# Altium schematic symbol library wr_switch.SCHLIB: 183 symbols (part 1 of 3)
Pins are listed as number, name and electrical type; pins without a type are passive.

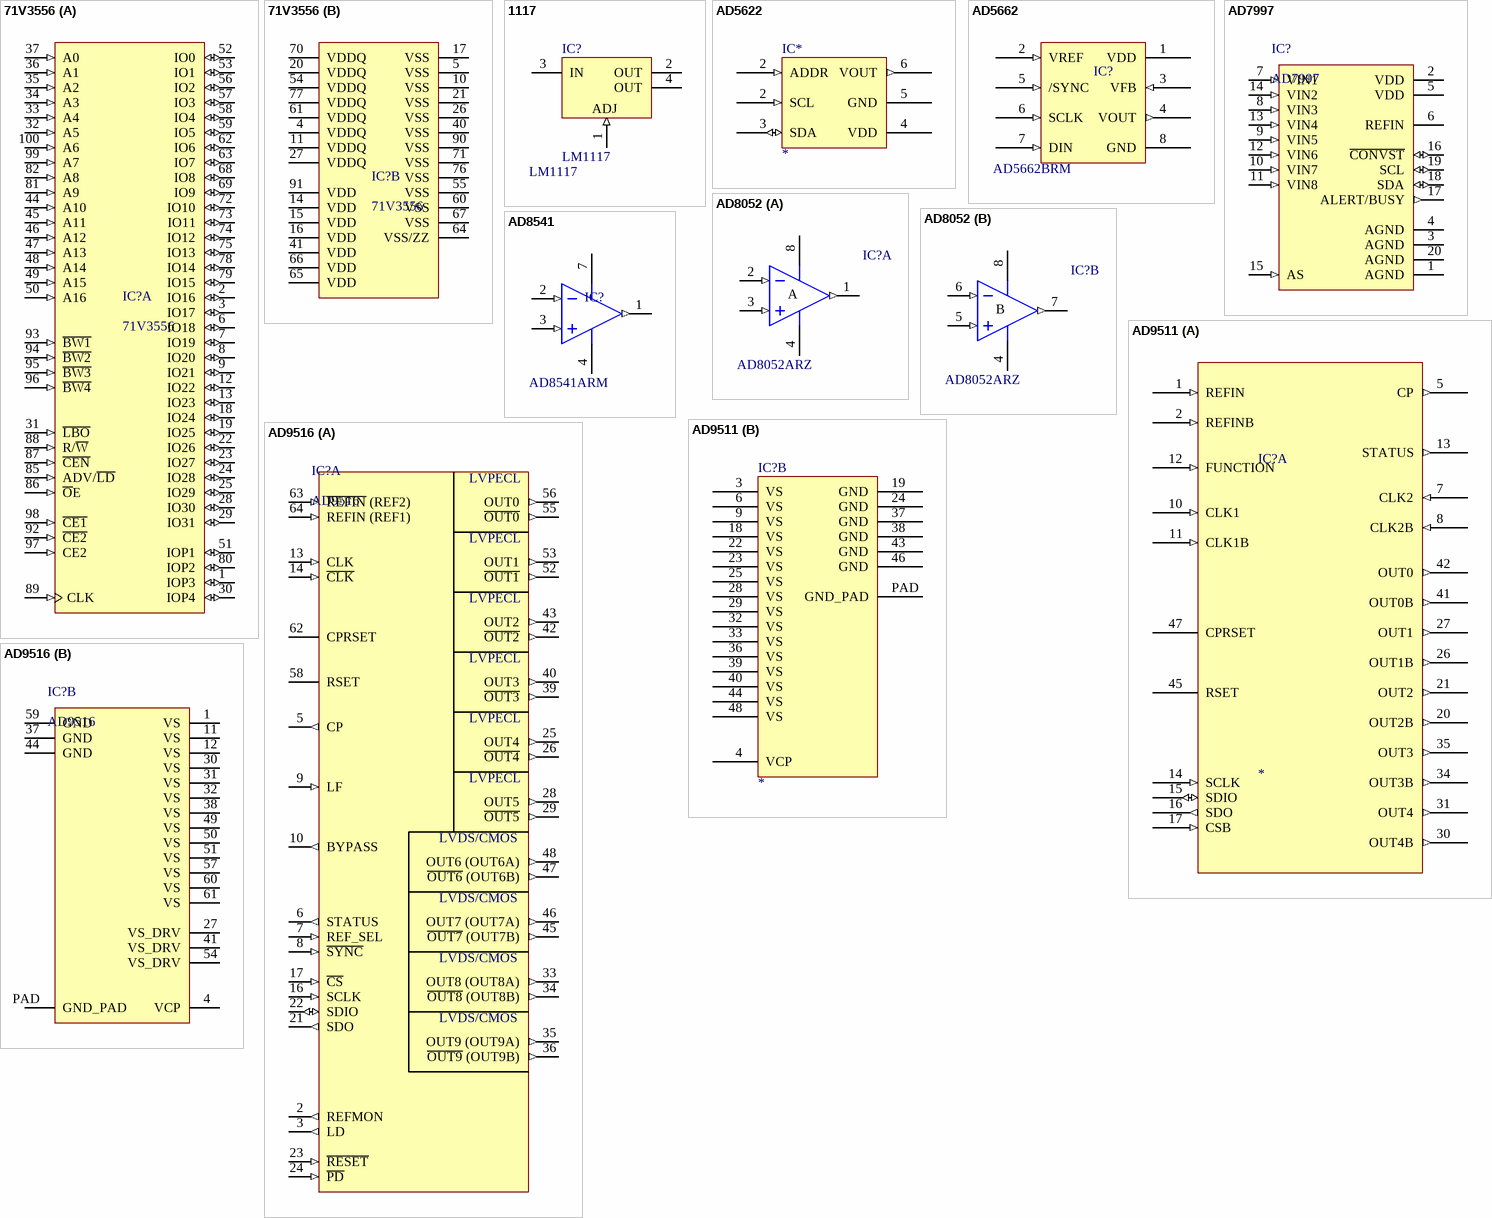
[diagram p0: symbols 71V3556 to AD9516]

## 71V3556
designator IC?
4.5 Mbit ZBT SRAM; RefId: 800-1843-1-ND; Value: IDT71V3556S166PFG8; Supplier: Digikey
footprint TQFP100A101
part A pins: 1 IOP3 (io), 2 IO16 (io), 3 IO17 (io), 6 IO18 (io), 7 IO19 (io), 8 IO20 (io), 9 IO21 (io), 12 IO22 (io), 13 IO23 (io), 18 IO24 (io), 19 IO25 (io), 22 IO26 (io), 23 IO27 (io), 24 IO28 (io), 25 IO29 (io), 28 IO30 (io), 29 IO31 (io), 30 IOP4 (io), 31 ~{LBO} (in), 32 A5 (in), 33 A4 (in), 34 A3 (in), 35 A2 (in), 36 A1 (in), 37 A0 (in), 44 A10 (in), 45 A11 (in), 46 A12 (in), 47 A13 (in), 48 A14 (in), 49 A15 (in), 50 A16 (in), 51 IOP1 (io), 52 IO0 (io), 53 IO1 (io), 56 IO2 (io), 57 IO3 (io), 58 IO4 (io), 59 IO5 (io), 62 IO6 (io), 63 IO7 (io), 68 IO8 (io), 69 IO9 (io), 72 IO10 (io), 73 IO11 (io), 74 IO12 (io), 75 IO13 (io), 78 IO14 (io), 79 IO15 (io), 80 IOP2 (io), 81 A9 (in), 82 A8 (in), 85 ADV/~{LD} (in), 86 ~{O}E (in), 87 ~{CEN} (in), 88 R/~{W} (in), 89 CLK (in), 92 ~{CE2} (in), 93 ~{BW1} (in), 94 ~{BW2} (in), 95 ~{BW3} (in), 96 ~{BW4} (in), 97 CE2 (in), 98 ~{CE1} (in), 99 A7 (in), 100 A6 (in)
part B pins: 4 VDDQ (power), 5 VSS (power), 10 VSS (power), 11 VDDQ (power), 14 VDD (power), 15 VDD (power), 16 VDD (power), 17 VSS (power), 20 VDDQ (power), 21 VSS (power), 26 VSS (power), 27 VDDQ (power), 40 VSS (power), 41 VDD (power), 54 VDDQ (power), 55 VSS (power), 60 VSS (power), 61 VDDQ (power), 64 VSS/ZZ (power), 65 VDD (power), 66 VDD (power), 67 VSS (power), 70 VDDQ (power), 71 VSS (power), 76 VSS (power), 77 VDDQ (power), 90 VSS (power), 91 VDD (power)

## 1117
designator IC?, comment LM1117
Three-Terminal Adjustable Output Positive Voltage Regulator; Package Information: Latest Revision: 1997; Note: Heatsink surface connected to Pin 2; Code - JEDEC: TO-262-AA; Published: 15-Apr-2002; Datasheet: Latest Revision: 1996; Package Reference: 221A-06; Publisher: Altium Limited; Value: LM1117
footprint 221A-06 (TO, Thru-Hole, Vertical, Heatsink Mounted; 3 In-Line Leads; Pitch 2.54 mm)
pins: 1 ADJ (in), 2 OUT (power), 3 IN (power), 4 OUT (power)

## AD5622
designator IC*
Analog Devices 12-bit 1.6 MSPS DAC V/out I2C
pins: 2 ADDR (in), 2 SCL (in), 3 SDA (io), 4 VDD (power), 5 GND (power), 6 VOUT (out)

## AD5662
designator IC?, comment value AD5662BRM  (hidden comment: AD5662B)
Analog Devices 16-bit DAC w/SPI interface, ext ref; RefId: 1117908; Supplier: Farnell
footprint TSOP65P490-8AN (TSOP, 8-Leads, Body 3x3mm, Pitch 0.65mm, IPC Medium Density)
pins: 1 VDD (power), 2 VREF (in), 3 VFB (in), 4 VOUT (out), 5 /SYNC (in), 6 SCLK (in), 7 DIN (in), 8 GND (power)

## AD7997
designator IC?
8-channel 10-bit I2C SAR ADC
footprint TSOP65P640-20AL (TSOP, 20-Leads, Body 6.5x4.4mm, Pitch 0.65mm, IPC High Density)
pins: 1 AGND (power), 2 VDD (power), 3 AGND (power), 4 AGND (power), 5 VDD (power), 6 REFIN (power), 7 VIN1 (in), 8 VIN3 (in), 9 VIN5 (in), 10 VIN7 (in), 11 VIN8 (in), 12 VIN6 (in), 13 VIN4 (in), 14 VIN2 (in), 15 AS (in), 16 ~{CONVST} (io), 17 ALERT/BUSY (out), 18 SDA (io), 19 SCL (io), 20 AGND (power)

## AD8052
designator IC?  value AD8052ARZ  (hidden comment: AD8052)
Low Cost, High-Speed Rail-to-Rail Amplifier; Package Information: Latest Revision: 1997; RefId: 9425616; Published: 8-Jun-2000; Revision: 17-Jul-2002: Re-released for DXP Platform.; Datasheet: Latest Revision: REV. A 1999; Package Reference: RM-08; Publisher: Altium Limited; Supplier: Farnell
footprint SO-G8/P1.53
pins on every part: 4 V- (power), 8 V+ (power)
part A pins: 1 OUT (out), 2 IN- (in), 3 IN+ (in)
part B pins: 5 IN+ (in), 6 IN- (in), 7 OUT (out)
part A text: A
part B text: B

## AD8541
designator IC?  value AD8541ARM  (hidden comment: AD8541)
Analog Devices general purpose low-voltage R2R CMOS opamp
pins: 1 OUT (out), 2 IN- (in), 3 IN+ (in), 4 V- (power), 7 V+ (power)

## AD9511
designator IC?
PLL chip
part A pins: 1 REFIN (in), 2 REFINB (in), 5 CP (out), 7 CLK2 (in), 8 CLK2B (in), 10 CLK1 (in), 11 CLK1B (in), 12 FUNCTION (in), 13 STATUS (out), 14 SCLK (in), 15 SDIO (io), 16 SDO (out), 17 CSB (in), 20 OUT2B (out), 21 OUT2 (out), 26 OUT1B (out), 27 OUT1 (out), 30 OUT4B (out), 31 OUT4 (out), 34 OUT3B (out), 35 OUT3 (out), 41 OUT0B (out), 42 OUT0 (out), 45 RSET, 47 CPRSET
part B pins: 3 VS (power), 4 VCP (power), 6 VS (power), 9 VS (power), 18 VS (power), 19 GND (power), 22 VS (power), 23 VS (power), 24 GND (power), 25 VS (power), 28 VS (power), 29 VS (power), 32 VS (power), 33 VS (power), 36 VS (power), 37 GND (power), 38 GND (power), 39 VS (power), 40 VS (power), 43 GND (power), 44 VS (power), 46 GND (power), 48 VS (power), PAD GND_PAD (power)

## AD9516
designator IC?
PLL with clock fanout
footprint QFN50P900X900X100-64M (QFN, 64-Leads, Body 9.1x9.1mm (max), Pitch 0.50mm, IPC Low Density)
part A pins: 2 REFMON (out), 3 LD (out), 5 CP (out), 6 STATUS (out), 7 REF_SEL (in), 8 ~{SYNC} (in), 9 LF (in), 10 BYPASS (out), 13 CLK (in), 14 ~{CLK} (in), 16 SCLK (in), 17 ~{CS} (in), 21 SDO (out), 22 SDIO (io), 23 ~{RESET} (in), 24 ~{PD} (in), 25 OUT4 (out), 26 ~{OUT4} (out), 28 OUT5 (out), 29 ~{OUT5} (out), 33 OUT8 (OUT8A) (out), 34 ~{OUT8} (OUT8B) (out), 35 OUT9 (OUT9A) (out), 36 ~{OUT9} (OUT9B) (out), 39 ~{OUT3} (out), 40 OUT3 (out), 42 ~{OUT2} (out), 43 OUT2 (out), 45 ~{OUT7} (OUT7B) (out), 46 OUT7 (OUT7A) (out), 47 ~{OUT6} (OUT6B) (out), 48 OUT6 (OUT6A) (out), 52 ~{OUT1} (out), 53 OUT1 (out), 55 ~{OUT0} (out), 56 OUT0 (out), 58 RSET, 62 CPRSET, 63 ~{REFIN} (REF2) (in), 64 REFIN (REF1) (in)
part B pins: 1 VS (power), 4 VCP (power), 11 VS (power), 12 VS (power), 27 VS_DRV (power), 30 VS (power), 31 VS (power), 32 VS (power), 37 GND (power), 38 VS (power), 41 VS_DRV (power), 44 GND (power), 49 VS (power), 50 VS (power), 51 VS (power), 54 VS_DRV (power), 57 VS (power), 59 GND (power), 60 VS (power), 61 VS (power), PAD GND_PAD (power)
part A text: LVPECL; LVDS/CMOS

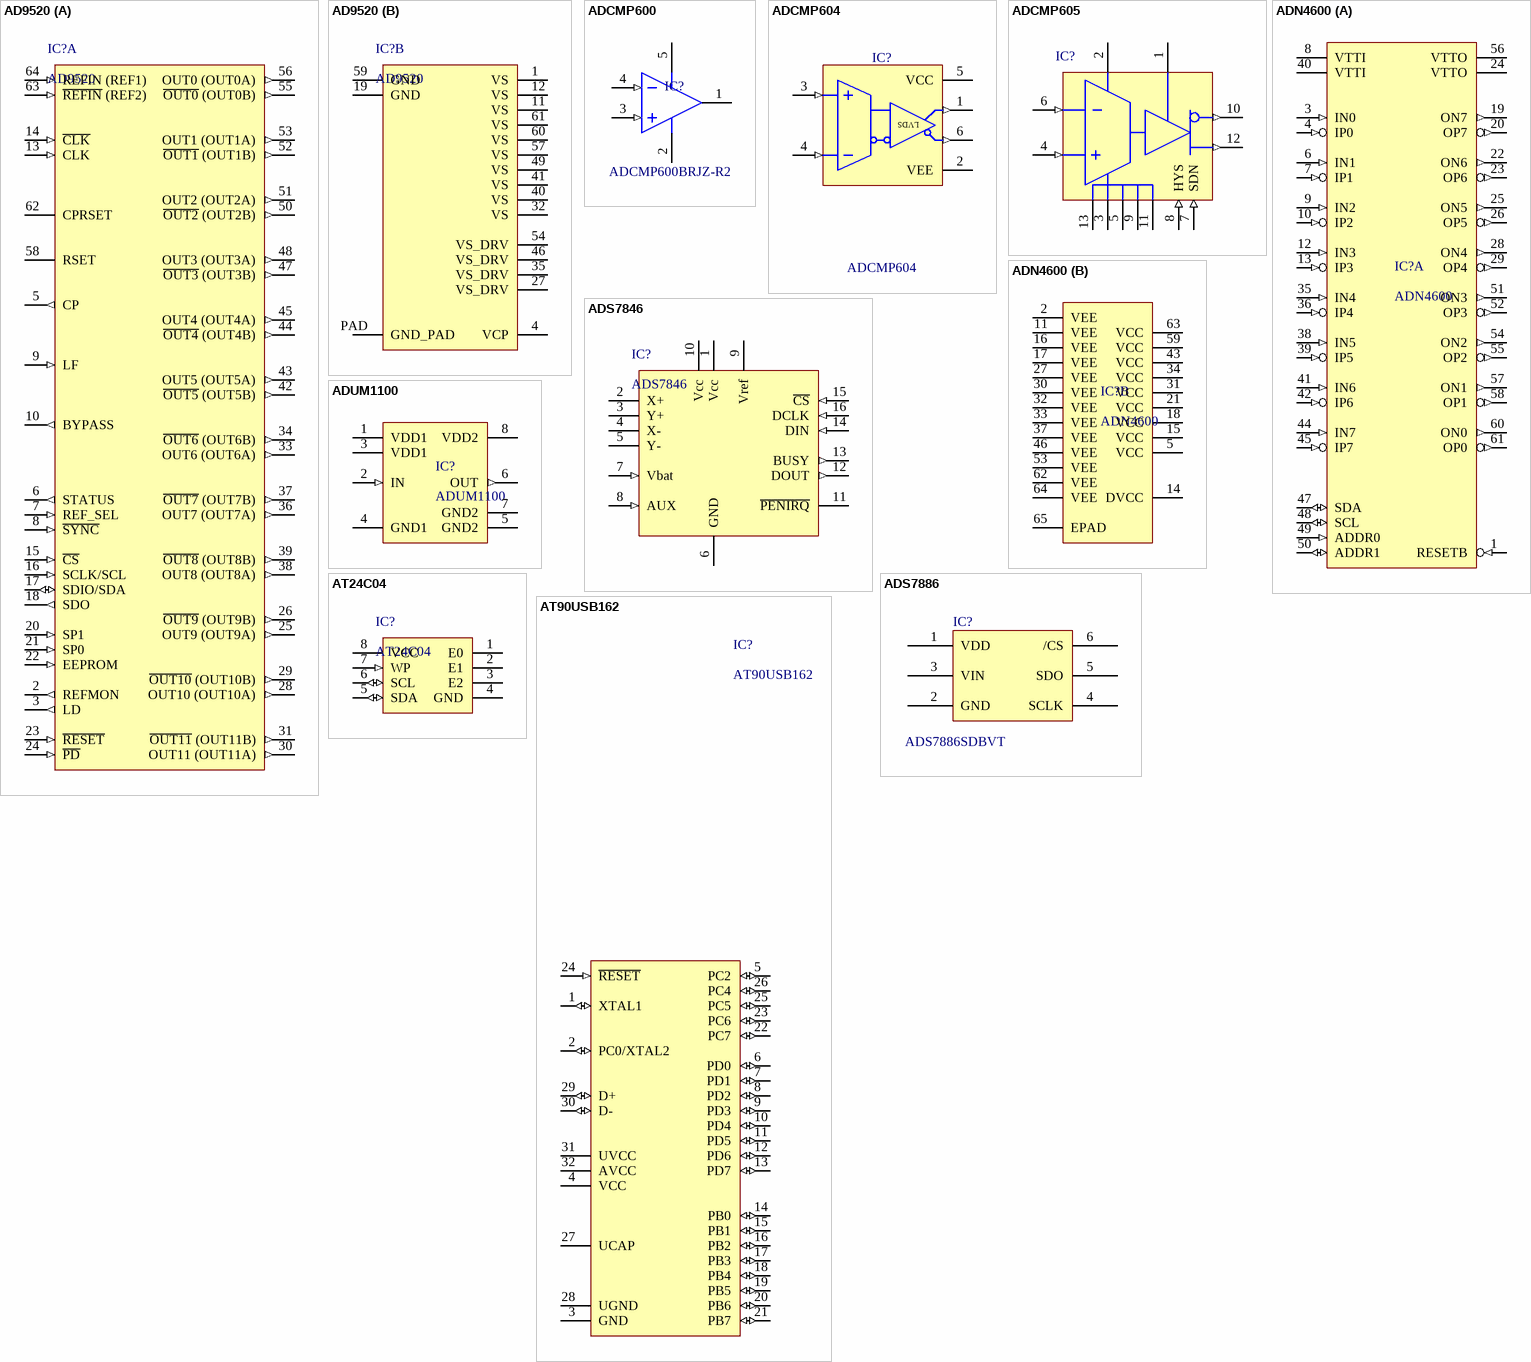
[diagram p1: symbols AD9520 to AT90USB162]

## AD9520
designator IC?
PLL with clock fanout
footprint QFN50P900X900X100-64M (QFN, 64-Leads, Body 9.1x9.1mm (max), Pitch 0.50mm, IPC Low Density)
part A pins: 2 REFMON (out), 3 LD (out), 5 CP (out), 6 STATUS (out), 7 REF_SEL (in), 8 ~{SYNC} (in), 9 LF (in), 10 BYPASS (out), 13 CLK (in), 14 ~{CLK} (in), 15 ~{CS} (in), 16 SCLK/SCL (in), 17 SDIO/SDA (io), 18 SDO (out), 20 SP1 (in), 21 SP0 (in), 22 EEPROM (in), 23 ~{RESET} (in), 24 ~{PD} (in), 25 OUT9 (OUT9A) (out), 26 ~{OUT9} (OUT9B) (out), 28 OUT10 (OUT10A) (out), 29 ~{OUT10} (OUT10B) (out), 30 OUT11 (OUT11A) (out), 31 ~{OUT11} (OUT11B) (out), 33 OUT6 (OUT6A) (out), 34 ~{OUT6} (OUT6B) (out), 36 OUT7 (OUT7A) (out), 37 ~{OUT7} (OUT7B) (out), 38 OUT8 (OUT8A) (out), 39 ~{OUT8} (OUT8B) (out), 42 ~{OUT5} (OUT5B) (out), 43 OUT5 (OUT5A) (out), 44 ~{OUT4} (OUT4B) (out), 45 OUT4 (OUT4A) (out), 47 ~{OUT3} (OUT3B) (out), 48 OUT3 (OUT3A) (out), 50 ~{OUT2} (OUT2B) (out), 51 OUT2 (OUT2A) (out), 52 ~{OUT1} (OUT1B) (out), 53 OUT1 (OUT1A) (out), 55 ~{OUT0} (OUT0B) (out), 56 OUT0 (OUT0A) (out), 58 RSET, 62 CPRSET, 63 ~{REFIN} (REF2) (in), 64 REFIN (REF1) (in)
part B pins: 1 VS (power), 4 VCP (power), 11 VS (power), 12 VS (power), 19 GND (power), 27 VS_DRV (power), 32 VS (power), 35 VS_DRV (power), 40 VS (power), 41 VS (power), 46 VS_DRV (power), 49 VS (power), 54 VS_DRV (power), 57 VS (power), 59 GND (power), 60 VS (power), 61 VS (power), PAD GND_PAD (power)

## ADCMP600
designator IC?  value ADCMP600BRJZ-R2  (hidden comment: ADCMP600)
Analog Devices fast comparator; RefId: 1441023; Supplier: Farnell
footprint SOT23-5AL (SOT23, 5-Leads, Body 2.9x1.6mm, Pitch 0.95mm, Lead Span 2.8mm, IPC High Density)
pins: 1 Q (oc), 2 VEE (power), 3 VP (in), 4 VN (in), 5 VCC/VCCO (power)

## ADCMP604
designator IC?
Rail-to-Rail, Very Fast, 2.5 V to 5.5 V Single-Supply LVDS Comparators; Device: ADCMP604
footprint SOT65P210X110-6N (SOT363, SC70-6, SOT, 0.65mm Pitch, 6 pin, 1.25mm W X 2.00mm L X 1.10mm H, IPC Medium Density)
pins: 1 Q (out), 2 VEE (power), 3 VP (in), 4 VN (in), 5 VCC (power), 6 ~{Q} (out)
text: LVDS

## ADCMP605
designator IC?  (value not drawn)
Analog Devices fast comparator with LVDS output; Supplier: Farnell
footprint QFN50P300X300-12V5M (QFN, 12-Leads, Body 3x3mm, Pitch 0.5mm, IPC Low Density)
pins: 1 VCCO (power), 2 VCCI (power), 3 VEE (power), 4 VP (in), 5 VEE (power), 6 VN (in), 7 SDN (in), 8 HYS (in), 9 VEE (power), 10 ~{Q} (out), 11 VEE (power), 12 Q (out), 13 PAD (power)

## ADN4600
designator IC?
Gigabit 8x8 crosspoint switch
footprint LFCSP64_ADN4600
part A pins: 1 RESETB (in), 3 IN0 (in), 4 IP0 (in), 6 IN1 (in), 7 IP1 (in), 8 VTTI (power), 9 IN2 (in), 10 IP2 (in), 12 IN3 (in), 13 IP3 (in), 19 ON7 (out), 20 OP7 (out), 22 ON6 (out), 23 OP6 (out), 24 VTTO (power), 25 ON5 (out), 26 OP5 (out), 28 ON4 (out), 29 OP4 (out), 35 IN4 (in), 36 IP4 (in), 38 IN5 (in), 39 IP5 (in), 40 VTTI (power), 41 IN6 (in), 42 IP6 (in), 44 IN7 (in), 45 IP7 (in), 47 SDA (io), 48 SCL (io), 49 ADDR0 (in), 50 ADDR1 (io), 51 ON3 (out), 52 OP3 (out), 54 ON2 (out), 55 OP2 (out), 56 VTTO (power), 57 ON1 (out), 58 OP1 (out), 60 ON0 (out), 61 OP0 (out)
part B pins: 2 VEE (power), 5 VCC (power), 11 VEE (power), 14 DVCC (power), 15 VCC (power), 16 VEE (power), 17 VEE (power), 18 VCC (power), 21 VCC (power), 27 VEE (power), 30 VEE (power), 31 VCC (power), 32 VEE (power), 33 VEE (power), 34 VCC (power), 37 VEE (power), 43 VCC (power), 46 VEE (power), 53 VEE (power), 59 VCC (power), 62 VEE (power), 63 VCC (power), 64 VEE (power), 65 EPAD (power)

## ADS7846
designator IC?
Resistive touchscreen controller
footprint TSOP65P640-16AM (TSOP, 16-Leads, Body 5x4.4mm, Pitch 0.65mm, IPC Low Density)
pins: 1 Vcc (power), 2 X+, 3 Y+, 4 X-, 5 Y-, 6 GND (power), 7 Vbat (in), 8 AUX (in), 9 Vref (power), 10 Vcc (power), 11 ~{PENIRQ} (oc), 12 DOUT (out), 13 BUSY (out), 14 DIN (in), 15 ~{CS} (in), 16 DCLK (in)

## ADS7886
designator IC?  value ADS7886SDBVT  (hidden comment: ADS7886)
TI 1 MSPS serial ADC; RefId: 1575257; Supplier: Farnell
footprint SOT23A-6L (SOT23, 6-Leads, Body 2.9x1.7mm, Pitch 0.95mm, Lead Span 2.8mm, IPC High Density)
pins: 1 VDD, 2 GND, 3 VIN, 4 SCLK, 5 SDO, 6 /CS

## ADUM1100
designator IC?
iCoupler
footprint SOIC127P600-8AL (SOIC, 8-Leads, Body 4.9x3.9mm, Pitch 1.27mm, IPC High Density)
pins: 1 VDD1 (power), 2 IN (in), 3 VDD1 (power), 4 GND1 (power), 5 GND2 (power), 6 OUT (out), 7 GND2 (power), 8 VDD2 (power)

## AT24C04
designator IC?
I2C EEPROM
footprint QFN127P600-8N
footprint TSOP65P490-8AM (TSOP, 8-Leads, Body 3x3mm, Pitch 0.65mm, IPC Low Density)
pins: 1 E0, 2 E1, 3 E2, 4 GND (power), 5 SDA (io), 6 SCL (io), 7 WP (in), 8 VCC (power)

## AT90USB162
designator IC?
Atmel AVR microcontroller with USB port
footprint QFP80P900X900-32M (32-Pin Quad Flat Pack 0.8 mm Pitch)
pins: 1 XTAL1 (io), 2 PC0/XTAL2 (io), 3 GND (power), 4 VCC (power), 5 PC2 (io), 6 PD0 (io), 7 PD1 (io), 8 PD2 (io), 9 PD3 (io), 10 PD4 (io), 11 PD5 (io), 12 PD6 (io), 13 PD7 (io), 14 PB0 (io), 15 PB1 (io), 16 PB2 (io), 17 PB3 (io), 18 PB4 (io), 19 PB5 (io), 20 PB6 (io), 21 PB7 (io), 22 PC7 (io), 23 PC6 (io), 24 ~{RESET} (in), 25 PC5 (io), 26 PC4 (io), 27 UCAP (power), 28 UGND (power), 29 D+ (io), 30 D- (io), 31 UVCC (power), 32 AVCC (power)

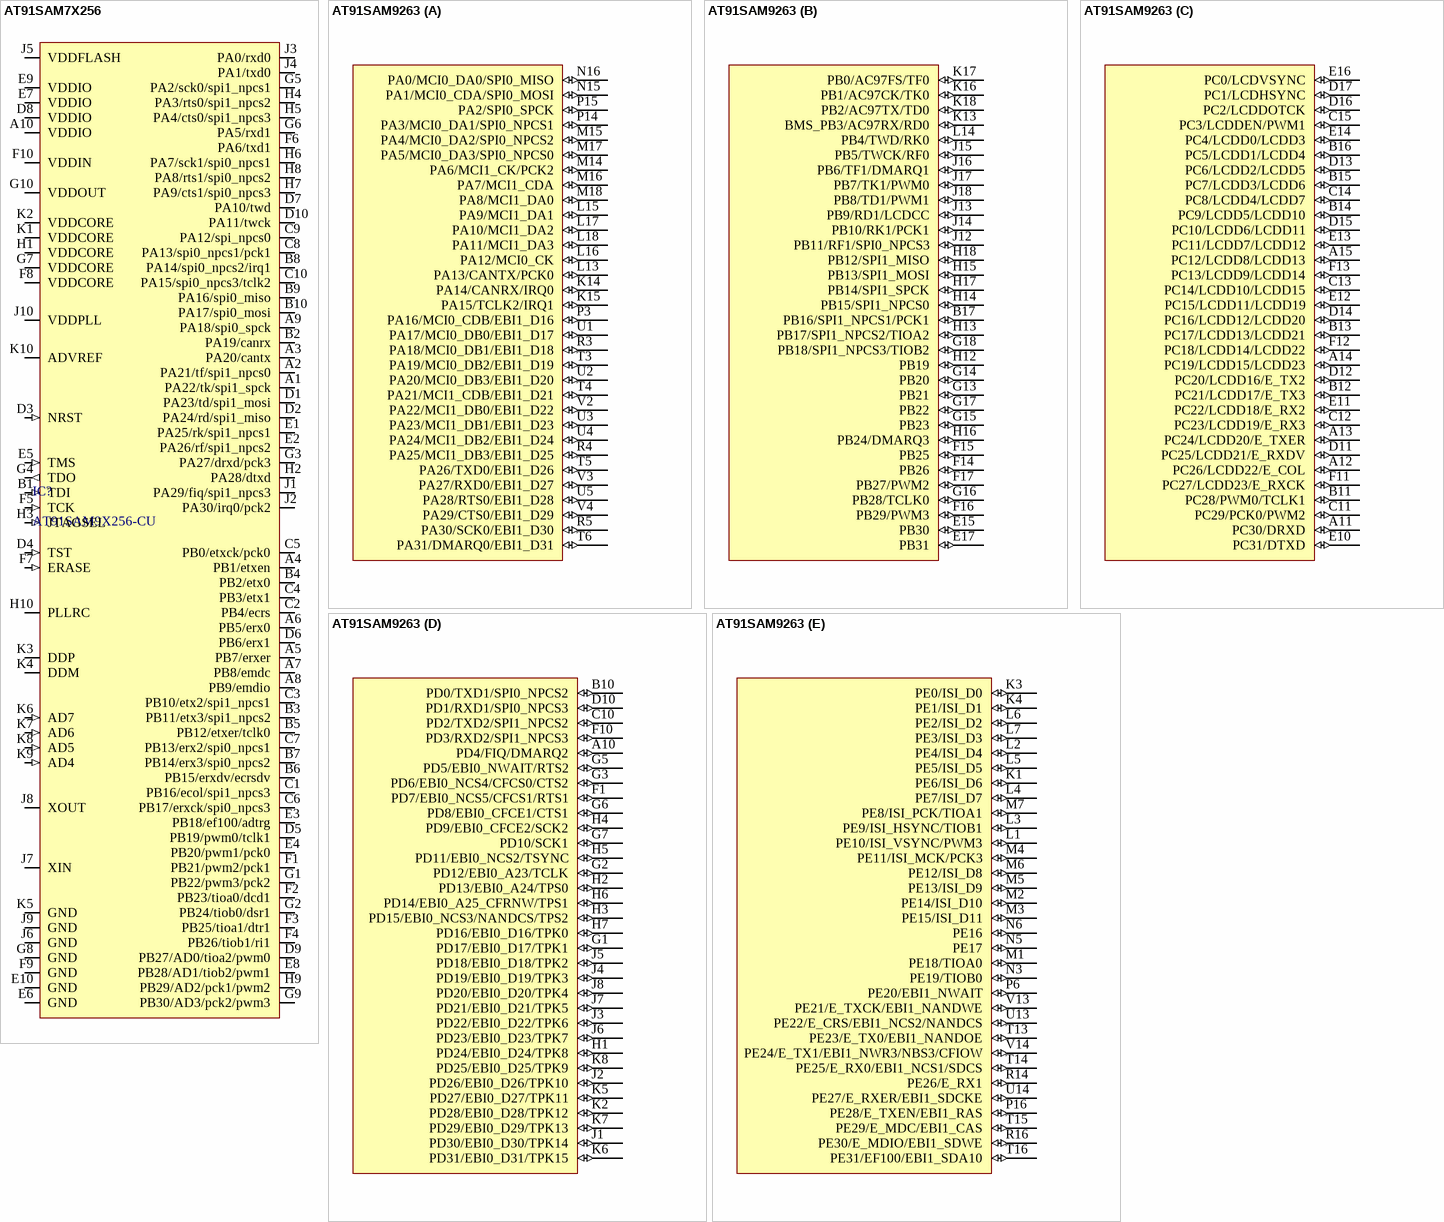
[diagram p2: symbols AT91SAM7X256 to AT91SAM9263]

## AT91SAM7X256
designator IC?, comment AT91SAM9X256-CU
Atmel ARM7 microcontroller with 256kB flash; RefId: Mouser/556-A91SAM7X256CU
footprint TFBGA100x10
pins: A1 PA22/tk/spi1_spck (io), A2 PA21/tf/spi1_npcs0 (io), A3 PA20/cantx (io), A4 PB1/etxen (io), A5 PB7/erxer (io), A6 PB5/erx0 (io), A7 PB8/emdc (io), A8 PB9/emdio (io), A9 PA18/spi0_spck (io), A10 VDDIO (power), B1 TDI (in), B2 PA19/canrx (io), B3 PB11/etx3/spi1_npcs2 (io), B4 PB2/etx0 (io), B5 PB12/etxer/tclk0 (io), B6 PB15/erxdv/ecrsdv (io), B7 PB14/erx3/spi0_npcs2 (io), B8 PA14/spi0_npcs2/irq1 (io), B9 PA16/spi0_miso (io), B10 PA17/spi0_mosi (io), C1 PB16/ecol/spi1_npcs3 (io), C2 PB4/ecrs (io), C3 PB10/etx2/spi1_npcs1 (io), C4 PB3/etx1 (io), C5 PB0/etxck/pck0 (io), C6 PB17/erxck/spi0_npcs3 (io), C7 PB13/erx2/spi0_npcs1 (io), C8 PA13/spi0_npcs1/pck1 (io), C9 PA12/spi_npcs0 (io), C10 PA15/spi0_npcs3/tclk2 (io), D1 PA23/td/spi1_mosi (io), D2 PA24/rd/spi1_miso (io), D3 NRST (in), D4 TST (in), D5 PB19/pwm0/tclk1 (io), D6 PB6/erx1 (io), D7 PA10/twd (io), D8 VDDIO (power), D9 PB27/AD0/tioa2/pwm0 (io), D10 PA11/twck (io), E1 PA25/rk/spi1_npcs1 (io), E2 PA26/rf/spi1_npcs2 (io), E3 PB18/ef100/adtrg (io), E4 PB20/pwm1/pck0 (io), E5 TMS (in), E6 GND (power), E7 VDDIO (power), E8 PB28/AD1/tiob2/pwm1 (io), E9 VDDIO (power), E10 GND (power), F1 PB21/pwm2/pck1 (io), F2 PB23/tioa0/dcd1 (io), F3 PB25/tioa1/dtr1 (io), F4 PB26/tiob1/ri1 (io), F5 TCK (in), F6 PA6/txd1 (io), F7 ERASE (in), F8 VDDCORE (power), F9 GND (power), F10 VDDIN (power), G1 PB22/pwm3/pck2 (io), G2 PB24/tiob0/dsr1 (io), G3 PA27/drxd/pck3 (io), G4 TDO (out), G5 PA2/sck0/spi1_npcs1 (io), G6 PA5/rxd1 (io), G7 VDDCORE (power), G8 GND (power), G9 PB30/AD3/pck2/pwm3 (io), G10 VDDOUT (power), H1 VDDCORE (power), H2 PA28/dtxd (io), H3 JTAGSEL (in), H4 PA3/rts0/spi1_npcs2 (io), H5 PA4/cts0/spi1_npcs3 (io), H6 PA7/sck1/spi0_npcs1 (io), H7 PA9/cts1/spi0_npcs3 (io), H8 PA8/rts1/spi0_npcs2 (io), H9 PB29/AD2/pck1/pwm2 (io), H10 PLLRC, J1 PA29/fiq/spi1_npcs3 (io), J2 PA30/irq0/pck2 (io), J3 PA0/rxd0 (io), J4 PA1/txd0 (io), J5 VDDFLASH (power), J6 GND (power), J7 XIN, J8 XOUT, J9 GND (power), J10 VDDPLL (power), K1 VDDCORE (power), K2 VDDCORE (power), K3 DDP (io), K4 DDM (io), K5 GND (power), K6 AD7 (in), K7 AD6 (in), K8 AD5 (in), K9 AD4 (in), K10 ADVREF (power)

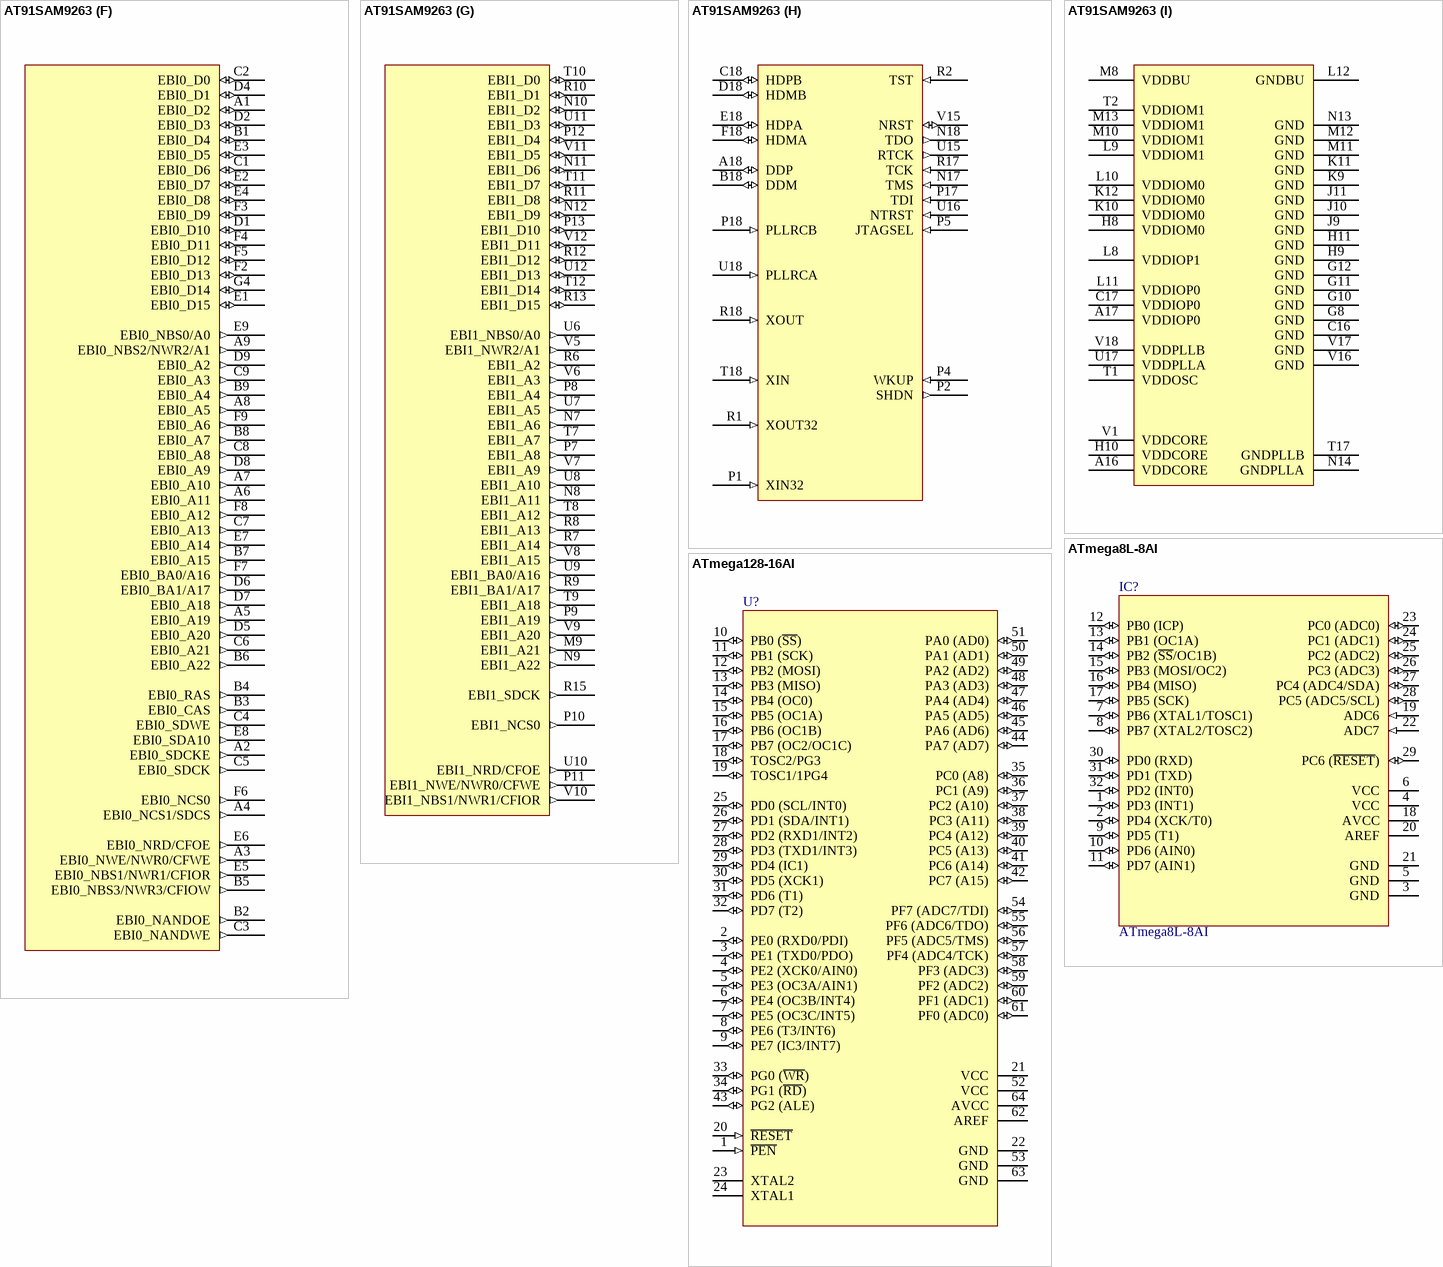
[diagram p3: symbols AT91SAM9263 to ATmega128-16AI]

## AT91SAM9263
designator IC?, comment AT91SAM9263-CU
Atmel ARM926 MCU; Supplier: EBV; RefId: AT91SAM9263-CU; Value: AT91SAM9263-CU
footprint TFBGA324
part A pins: K14 PA14/CANRX/IRQ0 (io), K15 PA15/TCLK2/IRQ1 (io), L13 PA13/CANTX/PCK0 (io), L15 PA9/MCI1_DA1 (io), L16 PA12/MCI0_CK (io), L17 PA10/MCI1_DA2 (io), L18 PA11/MCI1_DA3 (io), M14 PA6/MCI1_CK/PCK2 (io), M15 PA4/MCI0_DA2/SPI0_NPCS2 (io), M16 PA7/MCI1_CDA (io), M17 PA5/MCI0_DA3/SPI0_NPCS0 (io), M18 PA8/MCI1_DA0 (io), N15 PA1/MCI0_CDA/SPI0_MOSI (io), N16 PA0/MCI0_DA0/SPI0_MISO (io), P3 PA16/MCI0_CDB/EBI1_D16 (io), P14 PA3/MCI0_DA1/SPI0_NPCS1 (io), P15 PA2/SPI0_SPCK (io), R3 PA18/MCI0_DB1/EBI1_D18 (io), R4 PA25/MCI1_DB3/EBI1_D25 (io), R5 PA30/SCK0/EBI1_D30 (io), T3 PA19/MCI0_DB2/EBI1_D19 (io), T4 PA21/MCI1_CDB/EBI1_D21 (io), T5 PA26/TXD0/EBI1_D26 (io), T6 PA31/DMARQ0/EBI1_D31 (io), U1 PA17/MCI0_DB0/EBI1_D17 (io), U2 PA20/MCI0_DB3/EBI1_D20 (io), U3 PA23/MCI1_DB1/EBI1_D23 (io), U4 PA24/MCI1_DB2/EBI1_D24 (io), U5 PA28/RTS0/EBI1_D28 (io), V2 PA22/MCI1_DB0/EBI1_D22 (io), V3 PA27/RXD0/EBI1_D27 (io), V4 PA29/CTS0/EBI1_D29 (io)
part B pins: B17 PB16/SPI1_NPCS1/PCK1 (io), E15 PB30 (io), E17 PB31 (io), F14 PB26 (io), F15 PB25 (io), F16 PB29/PWM3 (io), F17 PB27/PWM2 (io), G13 PB21 (io), G14 PB20 (io), G15 PB23 (io), G16 PB28/TCLK0 (io), G17 PB22 (io), G18 PB18/SPI1_NPCS3/TIOB2 (io), H12 PB19 (io), H13 PB17/SPI1_NPCS2/TIOA2 (io), H14 PB15/SPI1_NPCS0 (io), H15 PB13/SPI1_MOSI (io), H16 PB24/DMARQ3 (io), H17 PB14/SPI1_SPCK (io), H18 PB12/SPI1_MISO (io), J12 PB11/RF1/SPI0_NPCS3 (io), J13 PB9/RD1/LCDCC (io), J14 PB10/RK1/PCK1 (io), J15 PB5/TWCK/RF0 (io), J16 PB6/TF1/DMARQ1 (io), J17 PB7/TK1/PWM0 (io), J18 PB8/TD1/PWM1 (io), K13 BMS_PB3/AC97RX/RD0 (io), K16 PB1/AC97CK/TK0 (io), K17 PB0/AC97FS/TF0 (io), K18 PB2/AC97TX/TD0 (io), L14 PB4/TWD/RK0 (io)
part C pins: A11 PC30/DRXD (io), A12 PC26/LCDD22/E_COL (io), A13 PC24/LCDD20/E_TXER (io), A14 PC19/LCDD15/LCDD23 (io), A15 PC12/LCDD8/LCDD13 (io), B11 PC28/PWM0/TCLK1 (io), B12 PC21/LCDD17/E_TX3 (io), B13 PC17/LCDD13/LCDD21 (io), B14 PC9/LCDD5/LCDD10 (io), B15 PC7/LCDD3/LCDD6 (io), B16 PC5/LCDD1/LCDD4 (io), C11 PC29/PCK0/PWM2 (io), C12 PC23/LCDD19/E_RX3 (io), C13 PC14/LCDD10/LCDD15 (io), C14 PC8/LCDD4/LCDD7 (io), C15 PC3/LCDDEN/PWM1 (io), D11 PC25/LCDD21/E_RXDV (io), D12 PC20/LCDD16/E_TX2 (io), D13 PC6/LCDD2/LCDD5 (io), D14 PC16/LCDD12/LCDD20 (io), D15 PC10/LCDD6/LCDD11 (io), D16 PC2/LCDDOTCK (io), D17 PC1/LCDHSYNC (io), E10 PC31/DTXD (io), E11 PC22/LCDD18/E_RX2 (io), E12 PC15/LCDD11/LCDD19 (io), E13 PC11/LCDD7/LCDD12 (io), E14 PC4/LCDD0/LCDD3 (io), E16 PC0/LCDVSYNC (io), F11 PC27/LCDD23/E_RXCK (io), F12 PC18/LCDD14/LCDD22 (io), F13 PC13/LCDD9/LCDD14 (io)
part D pins: A10 PD4/FIQ/DMARQ2 (io), B10 PD0/TXD1/SPI0_NPCS2 (io), C10 PD2/TXD2/SPI1_NPCS2 (io), D10 PD1/RXD1/SPI0_NPCS3 (io), F1 PD7/EBI0_NCS5/CFCS1/RTS1 (io), F10 PD3/RXD2/SPI1_NPCS3 (io), G1 PD17/EBI0_D17/TPK1 (io), G2 PD12/EBI0_A23/TCLK (io), G3 PD6/EBI0_NCS4/CFCS0/CTS2 (io), G5 PD5/EBI0_NWAIT/RTS2 (io), G6 PD8/EBI0_CFCE1/CTS1 (io), G7 PD10/SCK1 (io), H1 PD24/EBI0_D24/TPK8 (io), H2 PD13/EBI0_A24/TPS0 (io), H3 PD15/EBI0_NCS3/NANDCS/TPS2 (io), H4 PD9/EBI0_CFCE2/SCK2 (io), H5 PD11/EBI0_NCS2/TSYNC (io), H6 PD14/EBI0_A25_CFRNW/TPS1 (io), H7 PD16/EBI0_D16/TPK0 (io), J1 PD30/EBI0_D30/TPK14 (io), J2 PD26/EBI0_D26/TPK10 (io), J3 PD22/EBI0_D22/TPK6 (io), J4 PD19/EBI0_D19/TPK3 (io), J5 PD18/EBI0_D18/TPK2 (io), J6 PD23/EBI0_D23/TPK7 (io), J7 PD21/EBI0_D21/TPK5 (io), J8 PD20/EBI0_D20/TPK4 (io), K2 PD28/EBI0_D28/TPK12 (io), K5 PD27/EBI0_D27/TPK11 (io), K6 PD31/EBI0_D31/TPK15 (io), K7 PD29/EBI0_D29/TPK13 (io), K8 PD25/EBI0_D25/TPK9 (io)
part E pins: K1 PE6/ISI_D6 (io), K3 PE0/ISI_D0 (io), K4 PE1/ISI_D1 (io), L1 PE10/ISI_VSYNC/PWM3 (io), L2 PE4/ISI_D4 (io), L3 PE9/ISI_HSYNC/TIOB1 (io), L4 PE7/ISI_D7 (io), L5 PE5/ISI_D5 (io), L6 PE2/ISI_D2 (io), L7 PE3/ISI_D3 (io), M1 PE18/TIOA0 (io), M2 PE14/ISI_D10 (io), M3 PE15/ISI_D11 (io), M4 PE11/ISI_MCK/PCK3 (io), M5 PE13/ISI_D9 (io), M6 PE12/ISI_D8 (io), M7 PE8/ISI_PCK/TIOA1 (io), N3 PE19/TIOB0 (io), N5 PE17 (io), N6 PE16 (io), P6 PE20/EBI1_NWAIT (io), P16 PE28/E_TXEN/EBI1_RAS (io), R14 PE26/E_RX1 (io), R16 PE30/E_MDIO/EBI1_SDWE (io), T13 PE23/E_TX0/EBI1_NANDOE (io), T14 PE25/E_RX0/EBI1_NCS1/SDCS (io), T15 PE29/E_MDC/EBI1_CAS (io), T16 PE31/EF100/EBI1_SDA10 (io), U13 PE22/E_CRS/EBI1_NCS2/NANDCS (io), U14 PE27/E_RXER/EBI1_SDCKE (io), V13 PE21/E_TXCK/EBI1_NANDWE (io), V14 PE24/E_TX1/EBI1_NWR3/NBS3/CFIOW (io)
part F pins: A1 EBI0_D2 (io), A2 EBI0_SDCKE (out), A3 EBI0_NWE/NWR0/CFWE (out), A4 EBI0_NCS1/SDCS (out), A5 EBI0_A19 (out), A6 EBI0_A11 (out), A7 EBI0_A10 (out), A8 EBI0_A5 (out), A9 EBI0_NBS2/NWR2/A1 (out), B1 EBI0_D4 (io), B2 EBI0_NANDOE (out), B3 EBI0_CAS (out), B4 EBI0_RAS (out), B5 EBI0_NBS3/NWR3/CFIOW (out), B6 EBI0_A22 (out), B7 EBI0_A15 (out), B8 EBI0_A7 (out), B9 EBI0_A4 (out), C1 EBI0_D6 (io), C2 EBI0_D0 (io), C3 EBI0_NANDWE (out), C4 EBI0_SDWE (out), C5 EBI0_SDCK (out), C6 EBI0_A21 (out), C7 EBI0_A13 (out), C8 EBI0_A8 (out), C9 EBI0_A3 (out), D1 EBI0_D10 (io), D2 EBI0_D3 (io), D4 EBI0_D1 (io), D5 EBI0_A20 (out), D6 EBI0_BA1/A17 (out), D7 EBI0_A18 (out), D8 EBI0_A9 (out), D9 EBI0_A2 (out), E1 EBI0_D15 (io), E2 EBI0_D7 (io), E3 EBI0_D5 (io), E4 EBI0_D8 (io), E5 EBI0_NBS1/NWR1/CFIOR (out), E6 EBI0_NRD/CFOE (out), E7 EBI0_A14 (out), E8 EBI0_SDA10 (out), E9 EBI0_NBS0/A0 (out), F2 EBI0_D13 (io), F3 EBI0_D9 (io), F4 EBI0_D11 (io), F5 EBI0_D12 (io), F6 EBI0_NCS0 (out), F7 EBI0_BA0/A16 (out), F8 EBI0_A12 (out), F9 EBI0_A6 (out), G4 EBI0_D14 (io)
part G pins: M9 EBI1_A21 (out), N7 EBI1_A6 (out), N8 EBI1_A11 (out), N9 EBI1_A22 (out), N10 EBI1_D2 (io), N11 EBI1_D6 (io), N12 EBI1_D9 (io), P7 EBI1_A8 (out), P8 EBI1_A4 (out), P9 EBI1_A19 (out), P10 EBI1_NCS0 (out), P11 EBI1_NWE/NWR0/CFWE (out), P12 EBI1_D4 (io), P13 EBI1_D10 (io), R6 EBI1_A2 (out), R7 EBI1_A14 (out), R8 EBI1_A13 (out), R9 EBI1_BA1/A17 (out), R10 EBI1_D1 (io), R11 EBI1_D8 (io), R12 EBI1_D12 (io), R13 EBI1_D15 (io), R15 EBI1_SDCK (out), T7 EBI1_A7 (out), T8 EBI1_A12 (out), T9 EBI1_A18 (out), T10 EBI1_D0 (io), T11 EBI1_D7 (io), T12 EBI1_D14 (io), U6 EBI1_NBS0/A0 (out), U7 EBI1_A5 (out), U8 EBI1_A10 (out), U9 EBI1_BA0/A16 (out), U10 EBI1_NRD/CFOE (out), U11 EBI1_D3 (io), U12 EBI1_D13 (io), V5 EBI1_NWR2/A1 (out), V6 EBI1_A3 (out), V7 EBI1_A9 (out), V8 EBI1_A15 (out), V9 EBI1_A20 (out), V10 EBI1_NBS1/NWR1/CFIOR (out), V11 EBI1_D5 (io), V12 EBI1_D11 (io)
part H pins: A18 DDP (io), B18 DDM (io), C18 HDPB (io), D18 HDMB (io), E18 HDPA (io), F18 HDMA (io), N17 TMS (in), N18 TDO (out), P1 XIN32 (in), P2 SHDN (out), P4 WKUP (in), P5 JTAGSEL (in), P17 TDI (in), P18 PLLRCB (in), R1 XOUT32 (in), R2 TST (in), R17 TCK (in), R18 XOUT (in), T18 XIN (in), U15 RTCK (out), U16 NTRST (in), U18 PLLRCA (in), V15 NRST (io)
part I pins: A16 VDDCORE (power), A17 VDDIOP0 (power), C16 GND (power), C17 VDDIOP0 (power), G8 GND (power), G10 GND (power), G11 GND (power), G12 GND (power), H8 VDDIOM0 (power), H9 GND (power), H10 VDDCORE (power), H11 GND (power), J9 GND (power), J10 GND (power), J11 GND (power), K9 GND (power), K10 VDDIOM0 (power), K11 GND (power), K12 VDDIOM0 (power), L8 VDDIOP1 (power), L9 VDDIOM1 (power), L10 VDDIOM0 (power), L11 VDDIOP0 (power), L12 GNDBU (power), M8 VDDBU (power), M10 VDDIOM1 (power), M11 GND (power), M12 GND (power), M13 VDDIOM1 (power), N13 GND (power), N14 GNDPLLA (power), T1 VDDOSC (power), T2 VDDIOM1 (power), T17 GNDPLLB (power), U17 VDDPLLA (power), V1 VDDCORE (power), V16 GND (power), V17 GND (power), V18 VDDPLLB (power)

## ATmega8L-8AI
designator IC?
8-Bit AVR Microcontroller with 8K Bytes of In-System Programmable Flash Memory; Published: 17-Sep-2003; LatestRevisionDate: 13-Apr-2006; LatestRevisionNote: IPC-7351 Footprint Added.; DatasheetVersion: 2486H-AVR-09/02; PackageVersion: revB, Oct-2001; PackageReference: 32A; Publisher: Altium Limited; PackageDescription: 32-Pin Thin Quad Flat Pack 0.8 mm Pitch; Code_JEDEC: MS-026-ABA; ComponentLink1Description: Manufacturer Link; ComponentLink1URL: http://www.atmel.com; ComponentLink2Description: Datasheet; ComponentLink2URL: http://www.atmel.com/dyn/resources/prod_documents/doc2486.pdf
footprint LQFP32A_L (Thin QFP, 32-Leads, Body 7x7mm, Pitch 0.8mm, IPC High Density)
footprint 32A_L (Thin QFP, 32-Leads, Body 7x7mm, Pitch 0.8mm, IPC High Density)
footprint 32A_M (Thin QFP, 32-Leads, Body 7x7mm, Pitch 0.8mm, IPC Low Density)
3D model ATMEGA8L-32A (32-Pin Thin Quad Flat Pack 0.8 mm Pitch)
pins: 1 PD3 (INT1) (io), 2 PD4 (XCK/T0) (io), 3 GND (power), 4 VCC (power), 5 GND (power), 6 VCC (power), 7 PB6 (XTAL1/TOSC1) (io), 8 PB7 (XTAL2/TOSC2) (io), 9 PD5 (T1) (io), 10 PD6 (AIN0) (io), 11 PD7 (AIN1) (io), 12 PB0 (ICP) (io), 13 PB1 (OC1A) (io), 14 PB2 (~{SS}/OC1B) (io), 15 PB3 (MOSI/OC2) (io), 16 PB4 (MISO) (io), 17 PB5 (SCK) (io), 18 AVCC (power), 19 ADC6 (in), 20 AREF, 21 GND (power), 22 ADC7 (in), 23 PC0 (ADC0) (io), 24 PC1 (ADC1) (io), 25 PC2 (ADC2) (io), 26 PC3 (ADC3) (io), 27 PC4 (ADC4/SDA) (io), 28 PC5 (ADC5/SCL) (io), 29 PC6 (~{RESET}) (io), 30 PD0 (RXD) (io), 31 PD1 (TXD) (io), 32 PD2 (INT0) (io)

## ATmega128-16AI
designator U?
8-Bit AVR Microcontroller with 128K Bytes of In-System Programmable Flash Memory; Published: 17-Sep-2003; LatestRevisionDate: 13-Apr-2006; LatestRevisionNote: IPC-7351 Footprint Added.; DatasheetVersion: 2467G-AVR-09/02; PackageVersion: revB, Oct-2001; PackageReference: 64A; Publisher: Altium Limited; PackageDescription: 64-Pin Thin Quad Flat Pack 0.8 mm Pitch; Code_JEDEC: MS-026-AEB; ComponentLink1Description: Manufacturer Link; ComponentLink1URL: http://www.atmel.com; ComponentLink2Description: Datasheet; ComponentLink2URL: http://www.atmel.com/dyn/resources/prod_documents/doc2467.pdf
footprint 64A_N (Thin QFP, 64-Leads, Body 14x14mm, Pitch 0.8mm, IPC Medium Density)
footprint 64A_L (Thin QFP, 64-Leads, Body 14x14mm, Pitch 0.8mm, IPC High Density)
footprint 64A_M (Thin QFP, 64-Leads, Body 14x14mm, Pitch 0.8mm, IPC Low Density)
3D model ATMEGA128-64A (64-Pin Thin Quad Flat Pack 0.8 mm Pitch)
pins: 1 ~{PEN} (in), 2 PE0 (RXD0/PDI) (io), 3 PE1 (TXD0/PDO) (io), 4 PE2 (XCK0/AIN0) (io), 5 PE3 (OC3A/AIN1) (io), 6 PE4 (OC3B/INT4) (io), 7 PE5 (OC3C/INT5) (io), 8 PE6 (T3/INT6) (io), 9 PE7 (IC3/INT7) (io), 10 PB0 (~{SS}) (io), 11 PB1 (SCK) (io), 12 PB2 (MOSI) (io), 13 PB3 (MISO) (io), 14 PB4 (OC0) (io), 15 PB5 (OC1A) (io), 16 PB6 (OC1B) (io), 17 PB7 (OC2/OC1C) (io), 18 TOSC2/PG3 (io), 19 TOSC1/1PG4 (io), 20 ~{RESET} (in), 21 VCC (power), 22 GND (power), 23 XTAL2, 24 XTAL1, 25 PD0 (SCL/INT0) (io), 26 PD1 (SDA/INT1) (io), 27 PD2 (RXD1/INT2) (io), 28 PD3 (TXD1/INT3) (io), 29 PD4 (IC1) (io), 30 PD5 (XCK1) (io), 31 PD6 (T1) (io), 32 PD7 (T2) (io), 33 PG0 (~{WR}) (io), 34 PG1 (~{RD}) (io), 35 PC0 (A8) (io), 36 PC1 (A9) (io), 37 PC2 (A10) (io), 38 PC3 (A11) (io), 39 PC4 (A12) (io), 40 PC5 (A13) (io), 41 PC6 (A14) (io), 42 PC7 (A15) (io), 43 PG2 (ALE) (io), 44 PA7 (AD7) (io), 45 PA6 (AD6) (io), 46 PA5 (AD5) (io), 47 PA4 (AD4) (io), 48 PA3 (AD3) (io), 49 PA2 (AD2) (io), 50 PA1 (AD1) (io), 51 PA0 (AD0) (io), 52 VCC (power), 53 GND (power), 54 PF7 (ADC7/TDI) (io), 55 PF6 (ADC6/TDO) (io), 56 PF5 (ADC5/TMS) (io), 57 PF4 (ADC4/TCK) (io), 58 PF3 (ADC3) (io), 59 PF2 (ADC2) (io), 60 PF1 (ADC1) (io), 61 PF0 (ADC0) (io), 62 AREF, 63 GND (power), 64 AVCC (power)

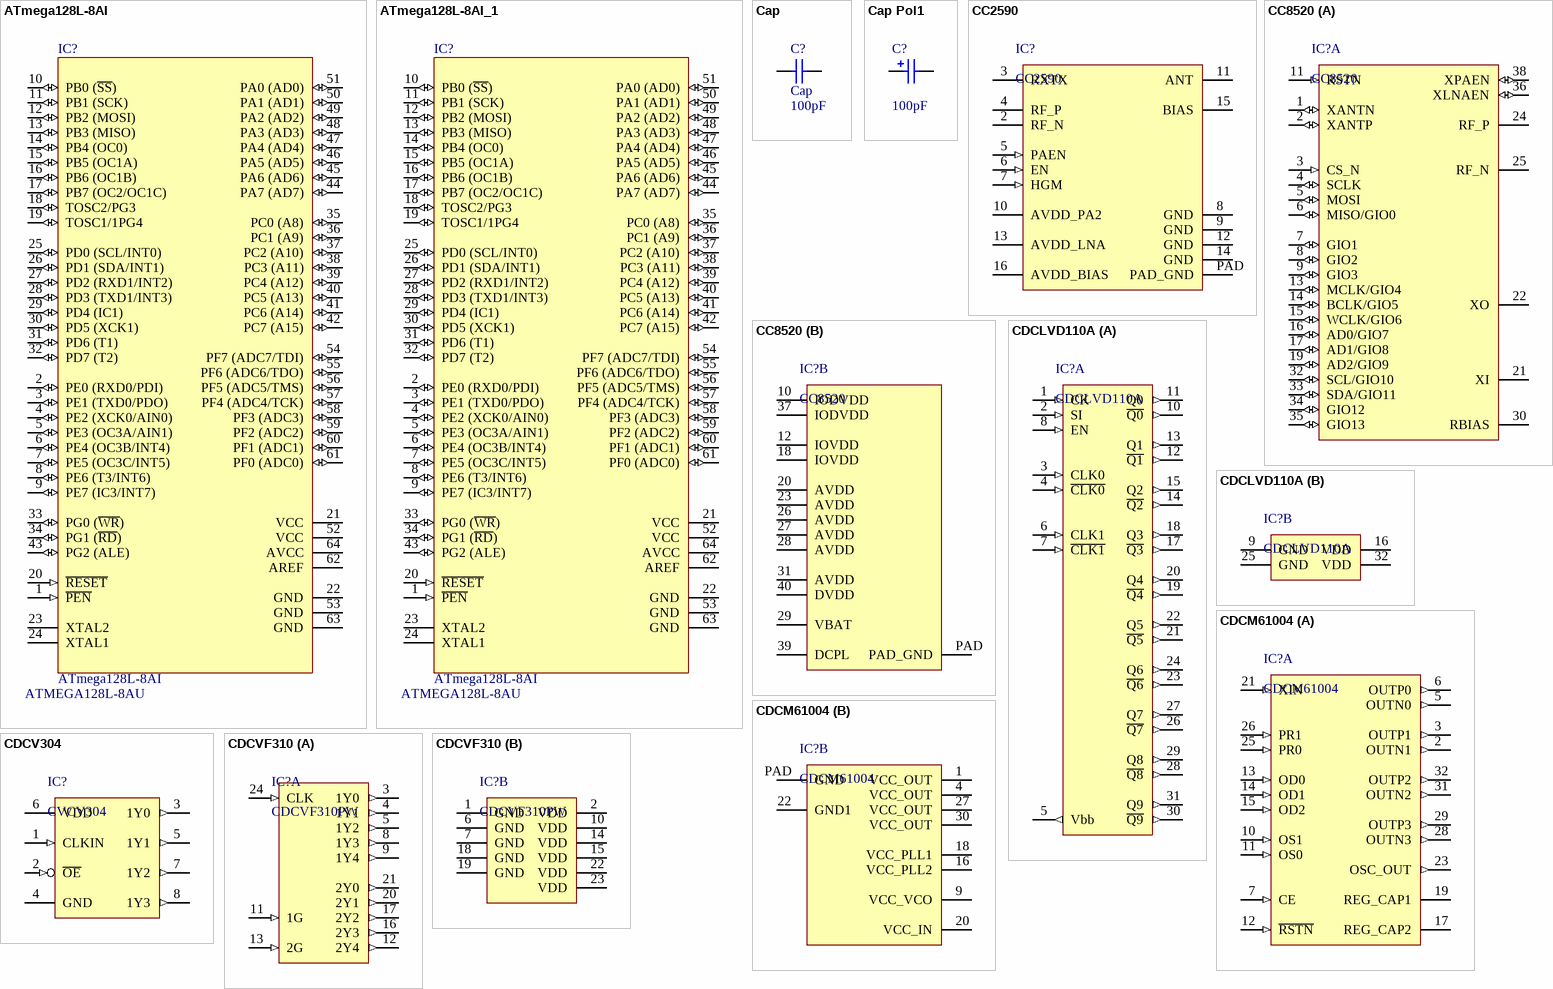
[diagram p4: symbols ATmega128L-8AI to CDCVF310]

## ATmega128L-8AI
designator IC?  value ATMEGA128L-8AU
8-Bit AVR Microcontroller with 128K Bytes of In-System Programmable Flash Memory; RefId: 9171126; Published: 17-Sep-2003; LatestRevisionDate: 13-Apr-2006; LatestRevisionNote: IPC-7351 Footprint Added.; DatasheetVersion: 2467G-AVR-09/02; PackageVersion: revB, Oct-2001; PackageReference: 64A; Publisher: Altium Limited; PackageDescription: 64-Pin Thin Quad Flat Pack 0.8 mm Pitch; Code_JEDEC: MS-026-AEB; ComponentLink1Description: Manufacturer Link; ComponentLink1URL: http://www.atmel.com; ComponentLink2Description: Datasheet; ComponentLink2URL: http://www.atmel.com/dyn/resources/prod_documents/doc2467.pdf; Supplier: Farnell
footprint 64A_N (Thin QFP, 64-Leads, Body 14x14mm, Pitch 0.8mm, IPC Medium Density)
footprint 64A_L (Thin QFP, 64-Leads, Body 14x14mm, Pitch 0.8mm, IPC High Density)
footprint 64A_M (Thin QFP, 64-Leads, Body 14x14mm, Pitch 0.8mm, IPC Low Density)
3D model ATMEGA128L-64A (64-Pin Thin Quad Flat Pack 0.8 mm Pitch)
pins: 1 ~{PEN} (in), 2 PE0 (RXD0/PDI) (io), 3 PE1 (TXD0/PDO) (io), 4 PE2 (XCK0/AIN0) (io), 5 PE3 (OC3A/AIN1) (io), 6 PE4 (OC3B/INT4) (io), 7 PE5 (OC3C/INT5) (io), 8 PE6 (T3/INT6) (io), 9 PE7 (IC3/INT7) (io), 10 PB0 (~{SS}) (io), 11 PB1 (SCK) (io), 12 PB2 (MOSI) (io), 13 PB3 (MISO) (io), 14 PB4 (OC0) (io), 15 PB5 (OC1A) (io), 16 PB6 (OC1B) (io), 17 PB7 (OC2/OC1C) (io), 18 TOSC2/PG3 (io), 19 TOSC1/1PG4 (io), 20 ~{RESET} (in), 21 VCC (power), 22 GND (power), 23 XTAL2, 24 XTAL1, 25 PD0 (SCL/INT0) (io), 26 PD1 (SDA/INT1) (io), 27 PD2 (RXD1/INT2) (io), 28 PD3 (TXD1/INT3) (io), 29 PD4 (IC1) (io), 30 PD5 (XCK1) (io), 31 PD6 (T1) (io), 32 PD7 (T2) (io), 33 PG0 (~{WR}) (io), 34 PG1 (~{RD}) (io), 35 PC0 (A8) (io), 36 PC1 (A9) (io), 37 PC2 (A10) (io), 38 PC3 (A11) (io), 39 PC4 (A12) (io), 40 PC5 (A13) (io), 41 PC6 (A14) (io), 42 PC7 (A15) (io), 43 PG2 (ALE) (io), 44 PA7 (AD7) (io), 45 PA6 (AD6) (io), 46 PA5 (AD5) (io), 47 PA4 (AD4) (io), 48 PA3 (AD3) (io), 49 PA2 (AD2) (io), 50 PA1 (AD1) (io), 51 PA0 (AD0) (io), 52 VCC (power), 53 GND (power), 54 PF7 (ADC7/TDI) (io), 55 PF6 (ADC6/TDO) (io), 56 PF5 (ADC5/TMS) (io), 57 PF4 (ADC4/TCK) (io), 58 PF3 (ADC3) (io), 59 PF2 (ADC2) (io), 60 PF1 (ADC1) (io), 61 PF0 (ADC0) (io), 62 AREF, 63 GND (power), 64 AVCC (power)

## ATmega128L-8AI_1
designator IC?, comment ATmega128L-8AI  value ATMEGA128L-8AU
8-Bit AVR Microcontroller with 128K Bytes of In-System Programmable Flash Memory; RefId: 9171126; Published: 17-Sep-2003; LatestRevisionDate: 13-Apr-2006; LatestRevisionNote: IPC-7351 Footprint Added.; DatasheetVersion: 2467G-AVR-09/02; PackageVersion: revB, Oct-2001; PackageReference: 64A; Publisher: Altium Limited; PackageDescription: 64-Pin Thin Quad Flat Pack 0.8 mm Pitch; Code_JEDEC: MS-026-AEB; ComponentLink1Description: Manufacturer Link; ComponentLink1URL: http://www.atmel.com; ComponentLink2Description: Datasheet; ComponentLink2URL: http://www.atmel.com/dyn/resources/prod_documents/doc2467.pdf; Supplier: Farnell
footprint 64A_N (Thin QFP, 64-Leads, Body 14x14mm, Pitch 0.8mm, IPC Medium Density)
footprint 64A_L (Thin QFP, 64-Leads, Body 14x14mm, Pitch 0.8mm, IPC High Density)
footprint 64A_M (Thin QFP, 64-Leads, Body 14x14mm, Pitch 0.8mm, IPC Low Density)
3D model ATMEGA128L-64A (64-Pin Thin Quad Flat Pack 0.8 mm Pitch)
pins: 1 ~{PEN} (in), 2 PE0 (RXD0/PDI) (io), 3 PE1 (TXD0/PDO) (io), 4 PE2 (XCK0/AIN0) (io), 5 PE3 (OC3A/AIN1) (io), 6 PE4 (OC3B/INT4) (io), 7 PE5 (OC3C/INT5) (io), 8 PE6 (T3/INT6) (io), 9 PE7 (IC3/INT7) (io), 10 PB0 (~{SS}) (io), 11 PB1 (SCK) (io), 12 PB2 (MOSI) (io), 13 PB3 (MISO) (io), 14 PB4 (OC0) (io), 15 PB5 (OC1A) (io), 16 PB6 (OC1B) (io), 17 PB7 (OC2/OC1C) (io), 18 TOSC2/PG3 (io), 19 TOSC1/1PG4 (io), 20 ~{RESET} (in), 21 VCC (power), 22 GND (power), 23 XTAL2, 24 XTAL1, 25 PD0 (SCL/INT0) (io), 26 PD1 (SDA/INT1) (io), 27 PD2 (RXD1/INT2) (io), 28 PD3 (TXD1/INT3) (io), 29 PD4 (IC1) (io), 30 PD5 (XCK1) (io), 31 PD6 (T1) (io), 32 PD7 (T2) (io), 33 PG0 (~{WR}) (io), 34 PG1 (~{RD}) (io), 35 PC0 (A8) (io), 36 PC1 (A9) (io), 37 PC2 (A10) (io), 38 PC3 (A11) (io), 39 PC4 (A12) (io), 40 PC5 (A13) (io), 41 PC6 (A14) (io), 42 PC7 (A15) (io), 43 PG2 (ALE) (io), 44 PA7 (AD7) (io), 45 PA6 (AD6) (io), 46 PA5 (AD5) (io), 47 PA4 (AD4) (io), 48 PA3 (AD3) (io), 49 PA2 (AD2) (io), 50 PA1 (AD1) (io), 51 PA0 (AD0) (io), 52 VCC (power), 53 GND (power), 54 PF7 (ADC7/TDI) (io), 55 PF6 (ADC6/TDO) (io), 56 PF5 (ADC5/TMS) (io), 57 PF4 (ADC4/TCK) (io), 58 PF3 (ADC3) (io), 59 PF2 (ADC2) (io), 60 PF1 (ADC1) (io), 61 PF0 (ADC0) (io), 62 AREF, 63 GND (power), 64 AVCC (power)

## Cap
designator C?  value 100pF
Capacitor; Published: 8-Jun-2000; LatestRevisionDate: 17-Jul-2002; LatestRevisionNote: Re-released for DXP Platform.; PackageReference: RAD-0.3; Publisher: Altium Limited
footprint CC1005-0402
footprint CC1608-0603
footprint CC2012-0805
footprint CC3216-1206
pins: 1, 2

## Cap Pol1
designator C?  value 100pF
Polarized Capacitor (Radial); Published: 8-Jun-2000; LatestRevisionDate: 17-Jul-2002; LatestRevisionNote: Re-released for DXP Platform.; PackageReference: RB7.6-15; Publisher: Altium Limited
footprint RB7.6-15 (Polarized Capacitor (Radial); 2 Leads)
footprint HA-C1 (Capacitor, Radial, Tantalum; Body 1.7 x 2.8 mm (Dia.xH max); Pin Spacing 1.27 mm (typ))
footprint A (Capacitor, Electrolytic, Radial; Body 4 x 5 mm (Dia.xH typ); Pin Spacing 1.5 mm (typ))
footprint B (Capacitor, Electrolytic, Radial; Body 5 x 6.8 mm (Dia.xH typ); Pin Spacing 2 mm (typ))
footprint CAPPR5-5x5 (Capacitor, Electrolytic, Radial; Body 5 x 5 mm (Dia.xH typ); Pin Spacing 5 mm (typ))
footprint CAPPR7.5-16x35 (Capacitor, Electrolytic, Radial; Body 16 x 35 mm (Dia.xH typ); Pin Spacing 7.5 mm (typ))
simulation model CAP (Capacitor)
signal-integrity model Cap Pol
pins: 1, 2
1 alternate drawing of the same symbol

## CC2590
designator IC?
TI 2.4 GHz RF frontend
pins: 2 RF_N, 3 RXTX, 4 RF_P, 5 PAEN (in), 6 EN (in), 7 HGM (in), 8 GND (power), 9 GND (power), 10 AVDD_PA2 (power), 11 ANT, 12 GND (power), 13 AVDD_LNA (power), 14 GND (power), 15 BIAS, 16 AVDD_BIAS (power), PAD PAD_GND (power)

## CC8520
designator IC?
TI wireless audio transceiver
part A pins: 1 XANTN (io), 2 XANTP (io), 3 CS_N (in), 4 SCLK (io), 5 MOSI (io), 6 MISO/GIO0 (io), 7 GIO1 (io), 8 GIO2 (io), 9 GIO3 (io), 11 RSTN (in), 13 MCLK/GIO4 (io), 14 BCLK/GIO5 (io), 15 WCLK/GIO6 (io), 16 AD0/GIO7 (io), 17 AD1/GIO8 (io), 19 AD2/GIO9 (io), 21 XI, 22 XO, 24 RF_P, 25 RF_N, 30 RBIAS, 32 SCL/GIO10 (io), 33 SDA/GIO11 (io), 34 GIO12 (io), 35 GIO13 (io), 36 XLNAEN (io), 38 XPAEN (io)
part B pins: 10 IODVDD (power), 12 IOVDD (power), 18 IOVDD (power), 20 AVDD (power), 23 AVDD (power), 26 AVDD (power), 27 AVDD (power), 28 AVDD (power), 29 VBAT (power), 31 AVDD (power), 37 IODVDD (power), 39 DCPL (power), 40 DVDD (power), PAD PAD_GND (power)

## CDCLVD110A
designator IC?
TI LVDS 1:10 fanout
footprint QFP80P900X900-32M (32-Pin Quad Flat Pack 0.8 mm Pitch)
part A pins: 1 CK (in), 2 SI (in), 3 CLK0 (in), 4 ~{CLK0} (in), 5 CLK0 (in) hidden, 5 Vbb (out), 6 CLK1 (in), 7 ~{CLK1} (in), 8 EN (in), 10 ~{Q0} (out), 11 Q0 (out), 12 ~{Q1} (out), 13 Q1 (out), 14 ~{Q2} (out), 15 Q2 (out), 17 ~{Q3} (out), 18 Q3 (out), 19 ~{Q4} (out), 20 Q4 (out), 21 ~{Q5} (out), 22 Q5 (out), 23 ~{Q6} (out), 24 Q6 (out), 26 ~{Q7} (out), 27 Q7 (out), 28 ~{Q8} (out), 29 Q8 (out), 30 ~{Q9} (out), 31 Q9 (out)
part B pins: 9 GND (power), 16 VDD (power), 25 GND (power), 32 VDD (power)

## CDCM61004
designator IC?
PLL generator with 1:4 fanout
footprint QFN32_POWERPAD
part A pins: 2 OUTN1 (out), 3 OUTP1 (out), 5 OUTN0 (out), 6 OUTP0 (out), 7 CE (in), 10 OS1 (in), 11 OS0 (in), 12 ~{RSTN} (in), 13 OD0 (in), 14 OD1 (in), 15 OD2 (in), 17 REG_CAP2, 19 REG_CAP1, 21 XIN (in), 23 OSC_OUT (out), 25 PR0 (in), 26 PR1 (in), 28 OUTN3 (out), 29 OUTP3 (out), 31 OUTN2 (out), 32 OUTP2 (out)
part B pins: 1 VCC_OUT (power), 4 VCC_OUT (power), 9 VCC_VCO (power), 16 VCC_PLL2 (power), 18 VCC_PLL1 (power), 20 VCC_IN (power), 22 GND1 (power), 27 VCC_OUT (power), 30 VCC_OUT (power), PAD GND (power)

## CDCV304
designator IC?, comment CVCV304
1:4 LVTTL fanout
footprint TSOP65P490-8AM (TSOP, 8-Leads, Body 3x3mm, Pitch 0.65mm, IPC Low Density)
pins: 1 CLKIN (in), 2 ~{OE} (in), 3 1Y0 (out), 4 GND (power), 5 1Y1 (out), 6 VDD (power), 7 1Y2 (out), 8 1Y3 (out)

## CDCVF310
designator IC?, comment CDCVF310PW
1:10 LVTTL/LVCMOS clock fanout
footprint TSOP65P640-24AL (TSOP, 24-Leads, Body 7.8x4.4mm, Pitch 0.65mm, IPC High Density)
part A pins: 3 1Y0 (out), 4 1Y1 (out), 5 1Y2 (out), 8 1Y3 (out), 9 1Y4 (out), 11 1G (in), 12 2Y4 (out), 13 2G (in), 16 2Y3 (out), 17 2Y2 (out), 20 2Y1 (out), 21 2Y0 (out), 24 CLK (in)
part B pins: 1 GND (power), 2 VDD (power), 6 GND (power), 7 GND (power), 10 VDD (power), 14 VDD (power), 15 VDD (power), 18 GND (power), 19 GND (power), 22 VDD (power), 23 VDD (power)

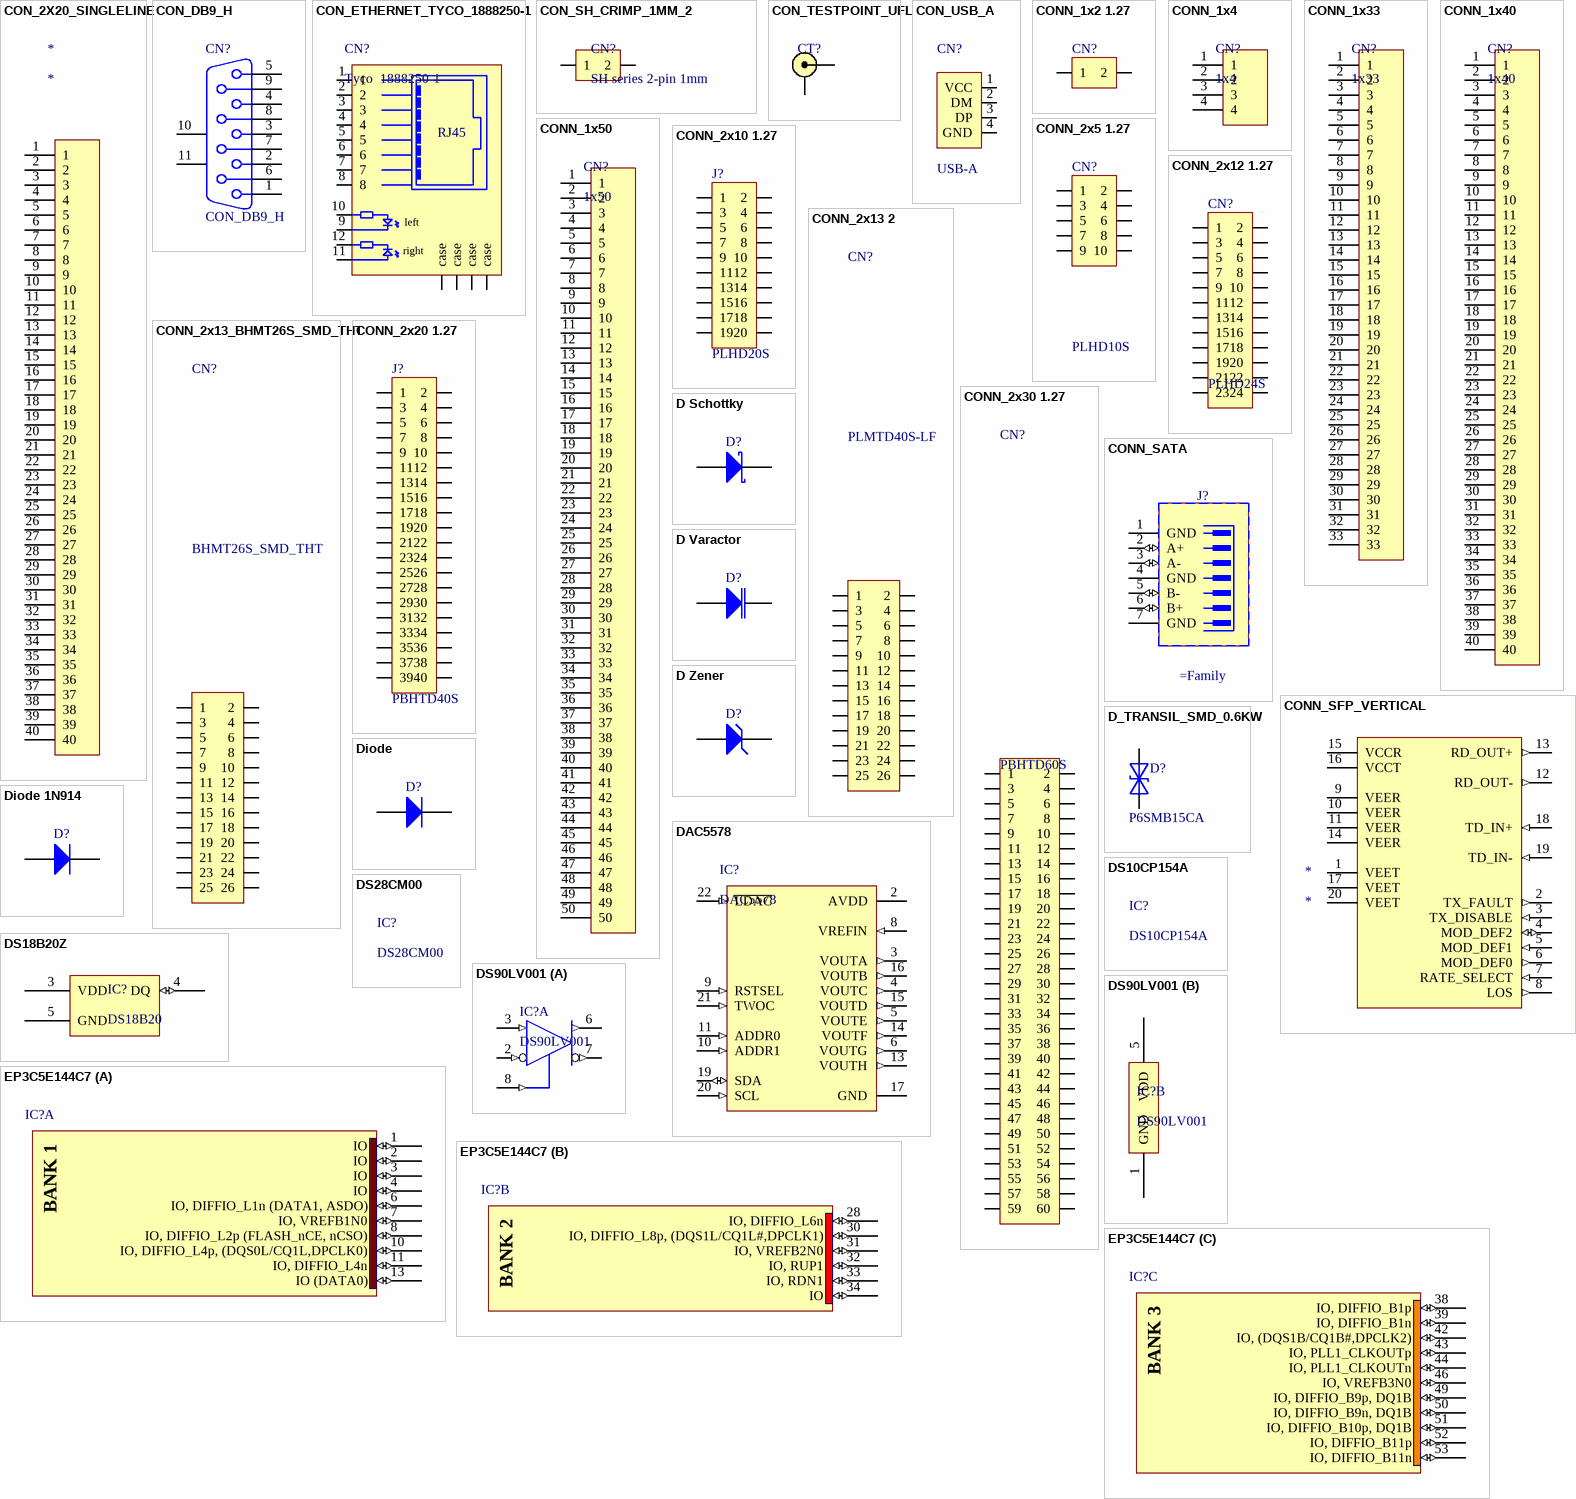
[diagram p5: symbols CON_2X20_SINGLELINE to EP3C5E144C7]

## CON_2X20_SINGLELINE
designator *
pins: 1, 2, 3, 4, 5, 6, 7, 8, 9, 10, 11, 12, 13, 14, 15, 16, 17, 18, 19, 20, 21, 22, 23, 24, 25, 26, 27, 28, 29, 30, 31, 32, 33, 34, 35, 36, 37, 38, 39, 40

## CON_DB9_H
designator CN?
Receptacle Assembly, 9 Position, Right Angle; Manufacturer: Generic Components; Package Information: Latest Revision: O; Class I: Connector; Positions: 9; RefId: 1263551; Value: MOLEX - 0836119006; Published: 15-Jun-2001; Revision: July-2002: Re-released for DXP Platform.; Datasheet: (1-Sep-1999); Package Reference: 788750; Publisher: Altium Limited; Orientation: Right Angle; Gender: Receptacle; Supplier: Farnell
footprint DB9_H_FEMALE
footprint DB9_H_FEMALE_screw
footprint DB9_H_MALE
footprint DSUB_MINI_9
pins: 1, 2, 3, 4, 5, 6, 7, 8, 9, 10 MH1, 11 MH2

## CON_ETHERNET_TYCO_1888250-1
designator CN?, comment Tyco  1888250-1
low profile uTCA Ethernet jack (RJ45); RefId: Mouser/571-1888250-1
footprint TYCO_ETHERNET_1888250-1
pins: 0 case, 0 case, 0 case, 0 case, 1, 2, 3, 4, 5, 6, 7, 8, 9 D2, 10 D1, 11 D4, 12 D3
text: RJ45; left; right

## CON_SH_CRIMP_1MM_2
designator CN?, comment SH series 2-pin 1mm
RefId: Far/1679127
footprint SH_CRIMP_1MM_2
pins: 1, 2

## CON_TESTPOINT_UFL
designator CT?  (value not drawn)
UFL connector testpoint
footprint CON_UFL_HIROSE_RECEPTACLE
pins: 1, 2

## CON_USB_A
designator CN?, comment USB-A
USB Tongue connector (A type)
footprint USB_CON_A (Footprint not found)
footprint USB_HOST_TONGUE
pins: 1 VCC, 2 DM, 3 DP, 4 GND

## CONN_1x2 1.27
designator CN?
1.27 mm dual row goldpin; Value: xxx
footprint con_1x2_1.27
pins: 1, 2
2 alternate drawings of the same symbol

## CONN_1x4
designator CN?, comment 1x4
pins: 1, 2, 3, 4

## CONN_1x33
designator CN?, comment 1x33
pins: 1, 2, 3, 4, 5, 6, 7, 8, 9, 10, 11, 12, 13, 14, 15, 16, 17, 18, 19, 20, 21, 22, 23, 24, 25, 26, 27, 28, 29, 30, 31, 32, 33

## CONN_1x40
designator CN?, comment 1x40
pins: 1, 2, 3, 4, 5, 6, 7, 8, 9, 10, 11, 12, 13, 14, 15, 16, 17, 18, 19, 20, 21, 22, 23, 24, 25, 26, 27, 28, 29, 30, 31, 32, 33, 34, 35, 36, 37, 38, 39, 40

## CONN_1x50
designator CN?, comment 1x50
pins: 1, 2, 3, 4, 5, 6, 7, 8, 9, 10, 11, 12, 13, 14, 15, 16, 17, 18, 19, 20, 21, 22, 23, 24, 25, 26, 27, 28, 29, 30, 31, 32, 33, 34, 35, 36, 37, 38, 39, 40, 41, 42, 43, 44, 45, 46, 47, 48, 49, 50

## CONN_2x5 1.27
designator CN?, comment PLHD10S
1.27 mm dual row goldpin; RefId: PBHTD10SPP; Value: PBHTD10SPP; Supplier: Maritex
footprint PLHTD10S-GC (SMT 1.27 mm dual goldpin)
pins: 1, 2, 3, 4, 5, 6, 7, 8, 9, 10
2 alternate drawings of the same symbol

## CONN_2x10 1.27
designator J?, comment PLHD20S
1.27 mm dual row goldpin; RefId: PBHTD20SPP; Value: PBHTD20SPP; Supplier: Maritex
footprint PLHD20S (1.27mm dual row pin grid)
footprint PLHTD20S-GC (SMT 1.27 mm dual goldpin)
pins: 1, 2, 3, 4, 5, 6, 7, 8, 9, 10, 11, 12, 13, 14, 15, 16, 17, 18, 19, 20
2 alternate drawings of the same symbol

## CONN_2x12 1.27
designator CN?, comment PLHD24S
1.27 mm dual row goldpin; RefId: PBHTD20SPP; Value: PBHTD20SPP; Supplier: Maritex
footprint PLHD20S (1.27mm dual row pin grid)
footprint PLHTD24S-GC (Footprint not found)
pins: 1, 2, 3, 4, 5, 6, 7, 8, 9, 10, 11, 12, 13, 14, 15, 16, 17, 18, 19, 20, 21, 22, 23, 24
2 alternate drawings of the same symbol

## CONN_2x13 2
designator CN?, comment PLMTD40S-LF
1.27 mm dual row goldpin; Supplier: Maritex; RefId: PLMTD40S-LF; Value: PLMTD40S-LF
footprint PLHD20S (1.27mm dual row pin grid)
footprint CONN_HDR_SMD_2mm_2x13
pins: 1, 2, 3, 4, 5, 6, 7, 8, 9, 10, 11, 12, 13, 14, 15, 16, 17, 18, 19, 20, 21, 22, 23, 24, 25, 26
2 alternate drawings of the same symbol

## CONN_2x13_BHMT26S_SMD_THT
designator CN?, comment BHMT26S_SMD_THT
1.27 mm dual row goldpin; RefId: PLMTD40S-LF; Value: PLMTD40S-LF; Supplier: Maritex
footprint PLHD20S (1.27mm dual row pin grid)
footprint CONN_HDR_2mm_2x13 - SMD_THT
pins: 1, 1a 1, 2, 2a 2, 3, 3a 3, 4, 4a 4, 5, 5a 5, 6, 6a 6, 7, 7a 7, 8, 8a 8, 9, 9a 9, 10, 10a 10, 11, 11a 11, 12, 12a 12, 13, 13a 13, 14, 14a 14, 15, 15a 15, 16, 16a 16, 17, 17a 17, 18, 18a 18, 19, 19a 19, 20, 20a 20, 21, 21a 21, 22, 22a 22, 23, 23a 23, 24, 24a 24, 25, 25a 25, 26, 26a 26
2 alternate drawings of the same symbol

## CONN_2x20 1.27
designator J?, comment PBHTD40S
1.27 mm dual row goldpin (Maritex)
footprint PLHD40S (1.27mm dual row pin grid)
footprint PLHTD40S (SMT 1.27 mm dual goldpin)
pins: 1, 2, 3, 4, 5, 6, 7, 8, 9, 10, 11, 12, 13, 14, 15, 16, 17, 18, 19, 20, 21, 22, 23, 24, 25, 26, 27, 28, 29, 30, 31, 32, 33, 34, 35, 36, 37, 38, 39, 40
2 alternate drawings of the same symbol

## CONN_2x30 1.27
designator CN?, comment PBHTD60S
1.27 mm dual row goldpin (Maritex)
footprint PLHD40S (1.27mm dual row pin grid)
footprint PLHTD40S (SMT 1.27 mm dual goldpin)
pins: 1, 2, 3, 4, 5, 6, 7, 8, 9, 10, 11, 12, 13, 14, 15, 16, 17, 18, 19, 20, 21, 22, 23, 24, 25, 26, 27, 28, 29, 30, 31, 32, 33, 34, 35, 36, 37, 38, 39, 40, 41, 42, 43, 44, 45, 46, 47, 48, 49, 50, 51, 52, 53, 54, 55, 56, 57, 58, 59, 60
2 alternate drawings of the same symbol

## CONN_SATA
designator J?
7 Pin + 1 Shield SATA Receptacle
footprint SATA_SMD_3M
pins: 1 GND (power) "Ground", 2 A+ (io) "Transmit+", 3 A- (io) "Transmit-", 4 GND (power) "Ground", 5 B- (io) "Receive-", 6 B+ (io) "Receive+", 7 GND (power) "Ground"

## CONN_SFP_VERTICAL
designator *
footprint KX14_HYBRID_SFP
pins: 1 VEET (power), 2 TX_FAULT (out), 3 TX_DISABLE (in), 4 MOD_DEF2 (io), 5 MOD_DEF1 (in), 6 MOD_DEF0 (out), 7 RATE_SELECT (in), 8 LOS (out), 9 VEER (power), 10 VEER (power), 11 VEER (power), 12 RD_OUT- (out), 13 RD_OUT+ (out), 14 VEER (power), 15 VCCR (power), 16 VCCT (power), 17 VEET (power), 18 TD_IN+ (in), 19 TD_IN- (in), 20 VEET (power)

## D Schottky
designator D?
Schottky Diode; Published: 8-Jun-2000; LatestRevisionDate: 17-Jul-2002; LatestRevisionNote: Re-released for DXP Platform.; PackageReference: SMB; Publisher: Altium Limited; Code_JEDEC: DO-214-AA
footprint SMB (DO-214-AA/SMB; 2 C-Bend Leads; Body 5.3 x 3.6 mm, inc. leads (LxW))
simulation model SKYDIODE (Diode)
signal-integrity model D Schottky
pins: 1 A, 2 K

## D Varactor
designator D?
Variable Capacitance Diode; Note: Pin 2 is not connected and not drawn.; Published: 8-Jun-2000; LatestRevisionDate: 17-Jul-2002; LatestRevisionNote: Re-released for DXP Platform.; DatasheetDocument: Jan-1998; PackageReference: SOT23A; Publisher: Altium Limited; Code_JEDEC: SOT23; ComponentLink1Description: Manufacturer Link; ComponentLink1URL: http://www.zetex.com/
footprint SOT23A (SOT-23; 3 Leads; Body 3.0 x 2.5 mm, inc. leads (LxW max))
simulation model BBY31 (Diode)
signal-integrity model D Varactor
pins: 1 K, 3 A

## D Zener
designator D?
Zener Diode; Published: 8-Jun-2000; LatestRevisionDate: 17-Jul-2002; LatestRevisionNote: Re-released for DXP Platform.; PackageReference: DIODE-0.7; Publisher: Altium Limited
footprint DIODE-0.7 (Zener Diode; 2 Leads)
simulation model ZENER (Diode)
signal-integrity model D Zener
pins: 1 A, 2 K

## D_TRANSIL_SMD_0.6KW
designator D?, comment P6SMB15CA
transil 600W; RefId: 1390860; Supplier: Farnell; Value: P6SMB15CA
footprint DO-214AA/SMB (diode (Maritex))
pins: A, K

## DAC5578
designator IC?
TI 8-channel 8-bit I2C DAC
footprint QFN50P400X400-24W4M (QFN, 24-Leads, Body 4x4mm, Pitch 0.5mm, IPC Low Density)
pins: 2 AVDD (power), 3 VOUTA (out), 4 VOUTC (out), 5 VOUTE (out), 6 VOUTG (out), 8 VREFIN (in), 9 RSTSEL (in), 10 ADDR1 (in), 11 ADDR0 (in), 13 VOUTH (out), 14 VOUTF (out), 15 VOUTD (out), 16 VOUTB (out), 17 GND (power), 19 SDA (io), 20 SCL (in), 21 TWOC (in), 22 ~{LDAC} (in)

## Diode
designator D?
Default Diode; Published: 8-Jun-2000; LatestRevisionDate: 17-Jul-2002; LatestRevisionNote: Re-released for DXP Platform.; PackageDocument: Sep-1996; PackageReference: SMC; Publisher: Altium Limited; Code_JEDEC: DO-214-AB
footprint SMC (DO-214-AB/SMC; 2 C-Bend Leads; Body 7.9 x 5.9 mm, inc. leads (LxW))
simulation model DIODE (Diode)
signal-integrity model Diode
pins: 1 A, 2 K

## Diode 1N914
designator D?
High Conductance Fast Diode; Published: 8-Jun-2000; LatestRevisionDate: 17-Jul-2002; LatestRevisionNote: Re-released for DXP Platform.; DatasheetDocument: 1997; PackageReference: DO-35; Publisher: Altium Limited; Code_JEDEC: DO-204-AH; ComponentLink1Description: Manufacturer Link; ComponentLink1URL: http://www.fairchildsemi.com/; ComponentLink2Description: Datasheet; ComponentLink2URL: http://www.fairchildsemi.com/ds/1N%2F1N4448.pdf
footprint DO-35 (Diode, Axial; Body 3.8 x 1.9 mm (LxDia. max), Lead Dia. 0.53 mm (max))
simulation model 1N914 (DIODE)
signal-integrity model 1N914
pins: 1 A, 2 K

## DS10CP154A
designator IC?
4x4 LVDS 1.5 Gbps xpoint

## DS18B20Z
designator IC?, comment DS18B20
1-wire thermometer/ID chip; Value: DS18B20Z; RefId: 1379772; Supplier: Farnell
footprint SOIC127P600-8AL (SOIC, 8-Leads, Body 4.9x3.9mm, Pitch 1.27mm, IPC High Density)
pins: 3 VDD (power), 4 DQ (io), 5 GND (power)

## DS28CM00
designator IC?

## DS90LV001
designator IC?
LVDS buffer with enable
footprint SOIC127P600-8AL (SOIC, 8-Leads, Body 4.9x3.9mm, Pitch 1.27mm, IPC High Density)
part A pins: 2 IN- (in), 3 IN+ (in), 6 OUT+ (out), 7 OUT- (out), 8 EN (in)
part B pins: 1 GND (power), 5 VDD (power)

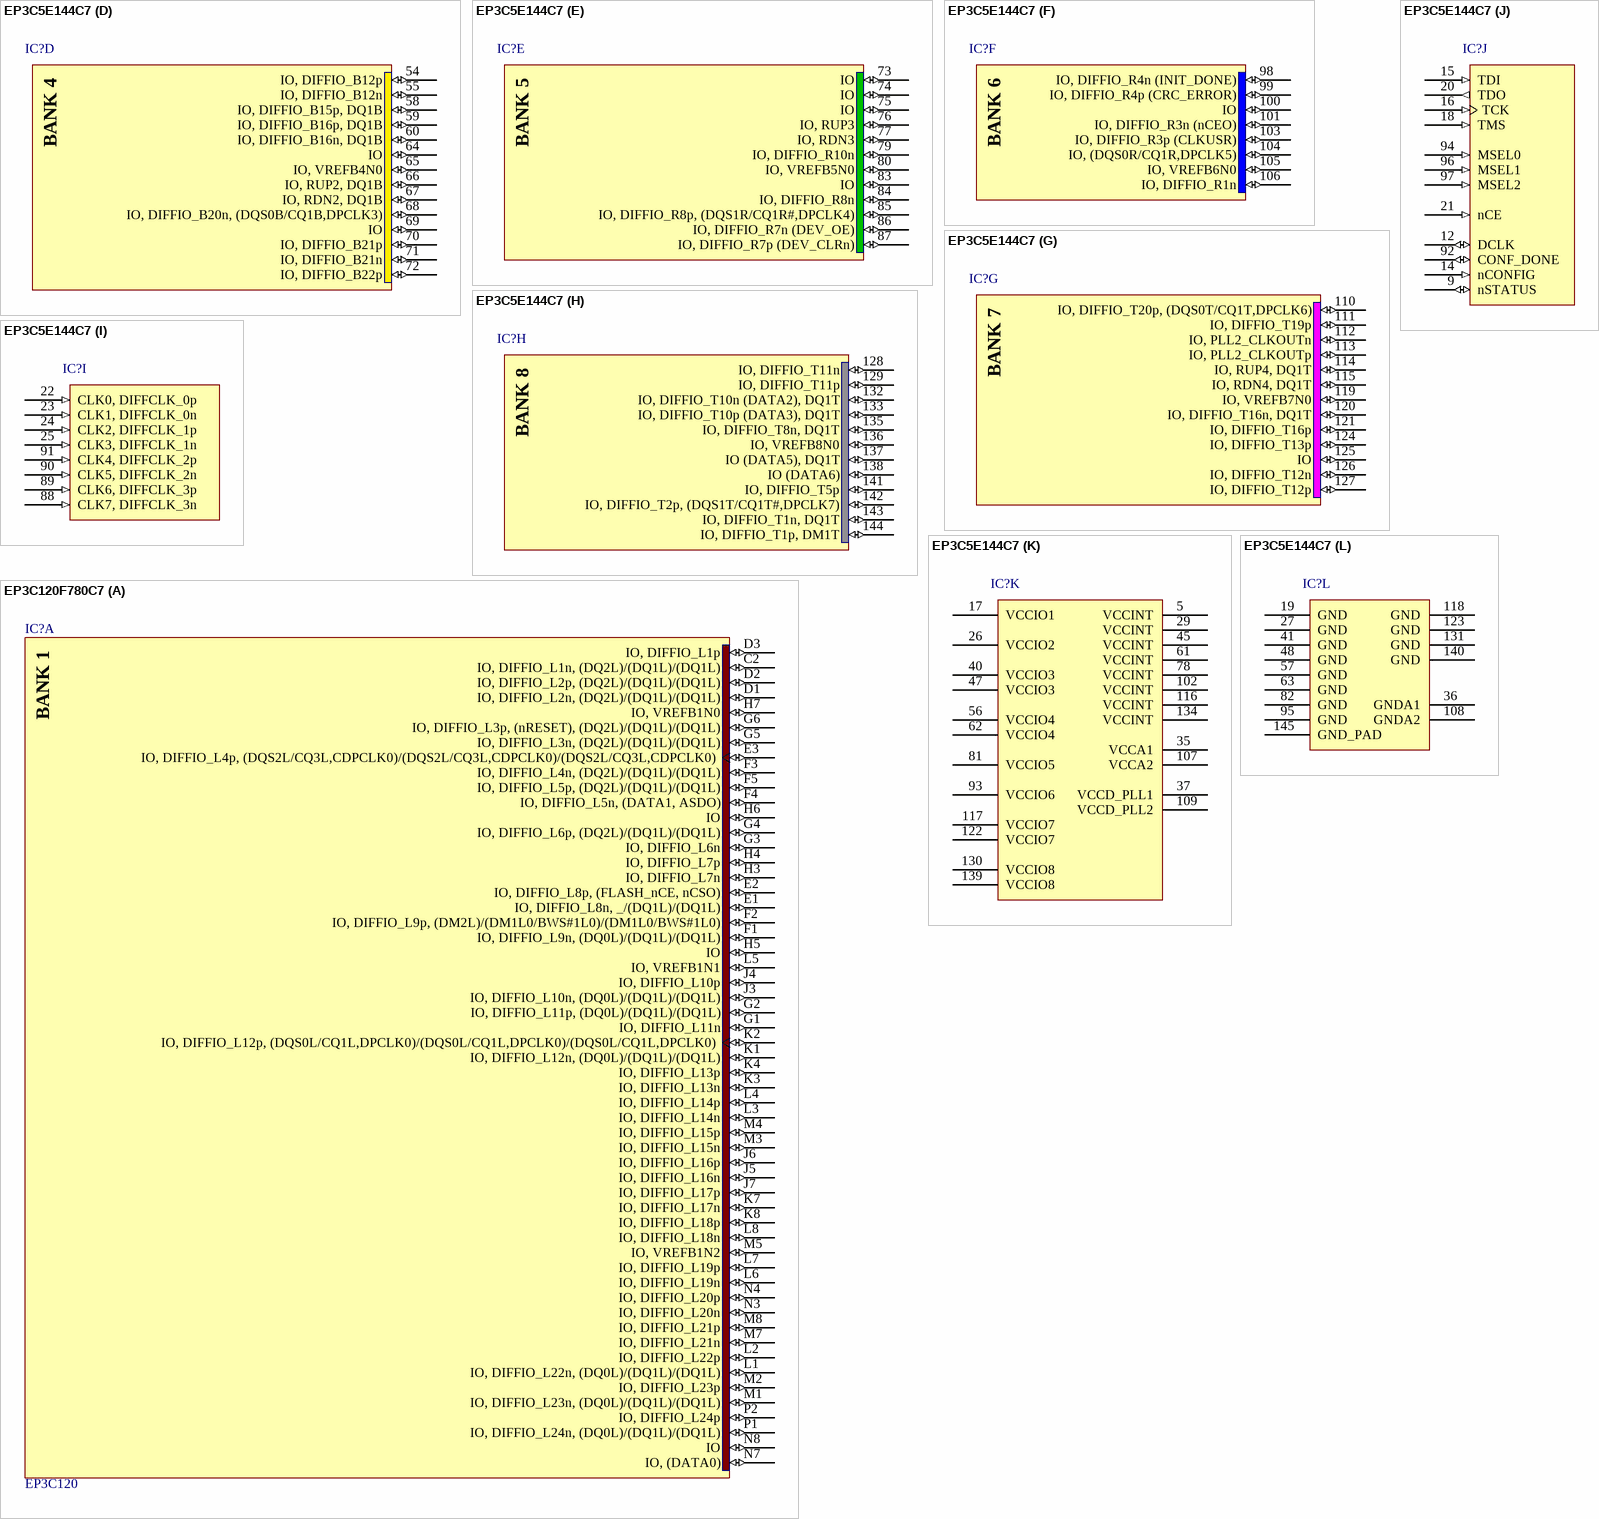
[diagram p6: symbols EP3C5E144C7 to EP3C120F780C7]

## EP3C5E144C7
designator IC?  (value not drawn)
Cyclone III Family FPGA, 94 I/O Pins, 4 PLLs, 144-Pin EQFP, Speed Grade 7, Commercial Grade; Note: Exposed pad at the bottom of this package must be connected to PCB GND.; RefId: 1635055; Published: 14-Mar-2008; DatasheetVersion: ver1.2, Sep-2007; PackageVersion: ver14.8, Oct-2007; PackageReference: EQFP144; Publisher: Altium Limited; PackageDescription: 144-Pin Plastic Enhanced Quad Flat Pack (EQFP144) - Wire Bond; Code_JEDEC: MS-026-BFB; ComponentLink1Description: Manufacturer Link; ComponentLink1URL: http://www.altera.com/; ComponentLink2Description: Handbook (7.86MB); ComponentLink2URL: http://www.altera.com/literature/hb/cyc3/cyclone3_handbook.pdf; ComponentLink3Description: Packaging Specification; ComponentLink3URL: http://www.altera.com/literature/ds/dspkg.pdf; Supplier: Farnell; Value: EP3C5E144C7
footprint EQFP144_N (Thin QFP, 144-Leads, Body 20x20mm, Pitch 0.5mm, IPC Medium Density)
footprint EQFP144_L (Thin QFP, 144-Leads, Body 20x20mm, Pitch 0.5mm, IPC High Density)
footprint EQFP144_M (Thin QFP, 144-Leads, Body 20x20mm, Pitch 0.5mm, IPC Low Density)
3D model EP3C5-EQFP144 (144-Pin Plastic Enhanced Quad Flat Pack (EQFP144) - Wire Bond)
signal-integrity model EP3C5_E144 (Cyclone III)
part A pins: 1 IO (io), 2 IO (io), 3 IO (io), 4 IO (io), 6 IO, DIFFIO_L1n (DATA1, ASDO) (io), 7 IO, VREFB1N0 (io), 8 IO, DIFFIO_L2p (FLASH_nCE, nCSO) (io), 10 IO, DIFFIO_L4p, (DQS0L/CQ1L,DPCLK0) (io), 11 IO, DIFFIO_L4n (io), 13 IO (DATA0) (io)
part B pins: 28 IO, DIFFIO_L6n (io), 30 IO, DIFFIO_L8p, (DQS1L/CQ1L#,DPCLK1) (io), 31 IO, VREFB2N0 (io), 32 IO, RUP1 (io), 33 IO, RDN1 (io), 34 IO (io)
part C pins: 38 IO, DIFFIO_B1p (io), 39 IO, DIFFIO_B1n (io), 42 IO, (DQS1B/CQ1B#,DPCLK2) (io), 43 IO, PLL1_CLKOUTp (io), 44 IO, PLL1_CLKOUTn (io), 46 IO, VREFB3N0 (io), 49 IO, DIFFIO_B9p, DQ1B (io), 50 IO, DIFFIO_B9n, DQ1B (io), 51 IO, DIFFIO_B10p, DQ1B (io), 52 IO, DIFFIO_B11p (io), 53 IO, DIFFIO_B11n (io)
part D pins: 54 IO, DIFFIO_B12p (io), 55 IO, DIFFIO_B12n (io), 58 IO, DIFFIO_B15p, DQ1B (io), 59 IO, DIFFIO_B16p, DQ1B (io), 60 IO, DIFFIO_B16n, DQ1B (io), 64 IO (io), 65 IO, VREFB4N0 (io), 66 IO, RUP2, DQ1B (io), 67 IO, RDN2, DQ1B (io), 68 IO, DIFFIO_B20n, (DQS0B/CQ1B,DPCLK3) (io), 69 IO (io), 70 IO, DIFFIO_B21p (io), 71 IO, DIFFIO_B21n (io), 72 IO, DIFFIO_B22p (io)
part E pins: 73 IO (io), 74 IO (io), 75 IO (io), 76 IO, RUP3 (io), 77 IO, RDN3 (io), 79 IO, DIFFIO_R10n (io), 80 IO, VREFB5N0 (io), 83 IO (io), 84 IO, DIFFIO_R8n (io), 85 IO, DIFFIO_R8p, (DQS1R/CQ1R#,DPCLK4) (io), 86 IO, DIFFIO_R7n (DEV_OE) (io), 87 IO, DIFFIO_R7p (DEV_CLRn) (io)
part F pins: 98 IO, DIFFIO_R4n (INIT_DONE) (io), 99 IO, DIFFIO_R4p (CRC_ERROR) (io), 100 IO (io), 101 IO, DIFFIO_R3n (nCEO) (io), 103 IO, DIFFIO_R3p (CLKUSR) (io), 104 IO, (DQS0R/CQ1R,DPCLK5) (io), 105 IO, VREFB6N0 (io), 106 IO, DIFFIO_R1n (io)
part G pins: 110 IO, DIFFIO_T20p, (DQS0T/CQ1T,DPCLK6) (io), 111 IO, DIFFIO_T19p (io), 112 IO, PLL2_CLKOUTn (io), 113 IO, PLL2_CLKOUTp (io), 114 IO, RUP4, DQ1T (io), 115 IO, RDN4, DQ1T (io), 119 IO, VREFB7N0 (io), 120 IO, DIFFIO_T16n, DQ1T (io), 121 IO, DIFFIO_T16p (io), 124 IO, DIFFIO_T13p (io), 125 IO (io), 126 IO, DIFFIO_T12n (io), 127 IO, DIFFIO_T12p (io)
part H pins: 128 IO, DIFFIO_T11n (io), 129 IO, DIFFIO_T11p (io), 132 IO, DIFFIO_T10n (DATA2), DQ1T (io), 133 IO, DIFFIO_T10p (DATA3), DQ1T (io), 135 IO, DIFFIO_T8n, DQ1T (io), 136 IO, VREFB8N0 (io), 137 IO (DATA5), DQ1T (io), 138 IO (DATA6) (io), 141 IO, DIFFIO_T5p (io), 142 IO, DIFFIO_T2p, (DQS1T/CQ1T#,DPCLK7) (io), 143 IO, DIFFIO_T1n, DQ1T (io), 144 IO, DIFFIO_T1p, DM1T (io)
part I pins: 22 CLK0, DIFFCLK_0p (in), 23 CLK1, DIFFCLK_0n (in), 24 CLK2, DIFFCLK_1p (in), 25 CLK3, DIFFCLK_1n (in), 88 CLK7, DIFFCLK_3n (in), 89 CLK6, DIFFCLK_3p (in), 90 CLK5, DIFFCLK_2n (in), 91 CLK4, DIFFCLK_2p (in)
part J pins: 9 nSTATUS (io), 12 DCLK (io), 14 nCONFIG (in), 15 TDI (in), 16 TCK (in), 18 TMS (in), 20 TDO (out), 21 nCE (in), 92 CONF_DONE (io), 94 MSEL0 (in), 96 MSEL1 (in), 97 MSEL2 (in)
part K pins: 5 VCCINT (power), 17 VCCIO1 (power), 26 VCCIO2 (power), 29 VCCINT (power), 35 VCCA1 (power), 37 VCCD_PLL1 (power), 40 VCCIO3 (power), 45 VCCINT (power), 47 VCCIO3 (power), 56 VCCIO4 (power), 61 VCCINT (power), 62 VCCIO4 (power), 78 VCCINT (power), 81 VCCIO5 (power), 93 VCCIO6 (power), 102 VCCINT (power), 107 VCCA2 (power), 109 VCCD_PLL2 (power), 116 VCCINT (power), 117 VCCIO7 (power), 122 VCCIO7 (power), 130 VCCIO8 (power), 134 VCCINT (power), 139 VCCIO8 (power)
part L pins: 19 GND (power), 27 GND (power), 36 GNDA1 (power), 41 GND (power), 48 GND (power), 57 GND (power), 63 GND (power), 82 GND (power), 95 GND (power), 108 GNDA2 (power), 118 GND (power), 123 GND (power), 131 GND (power), 140 GND (power), 145 GND_PAD (power)
part A text: BANK 1
part B text: BANK 2
part C text: BANK 3
part D text: BANK 4
part E text: BANK 5
part F text: BANK 6
part G text: BANK 7
part H text: BANK 8

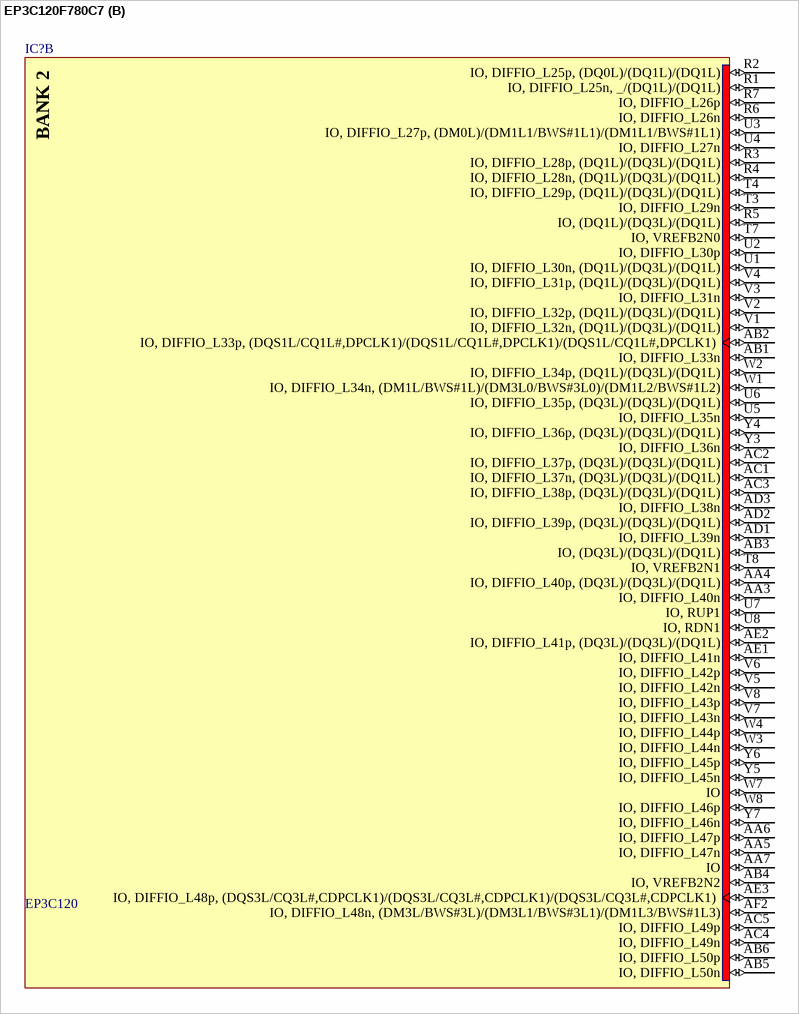
[diagram p7: symbol EP3C120F780C7]

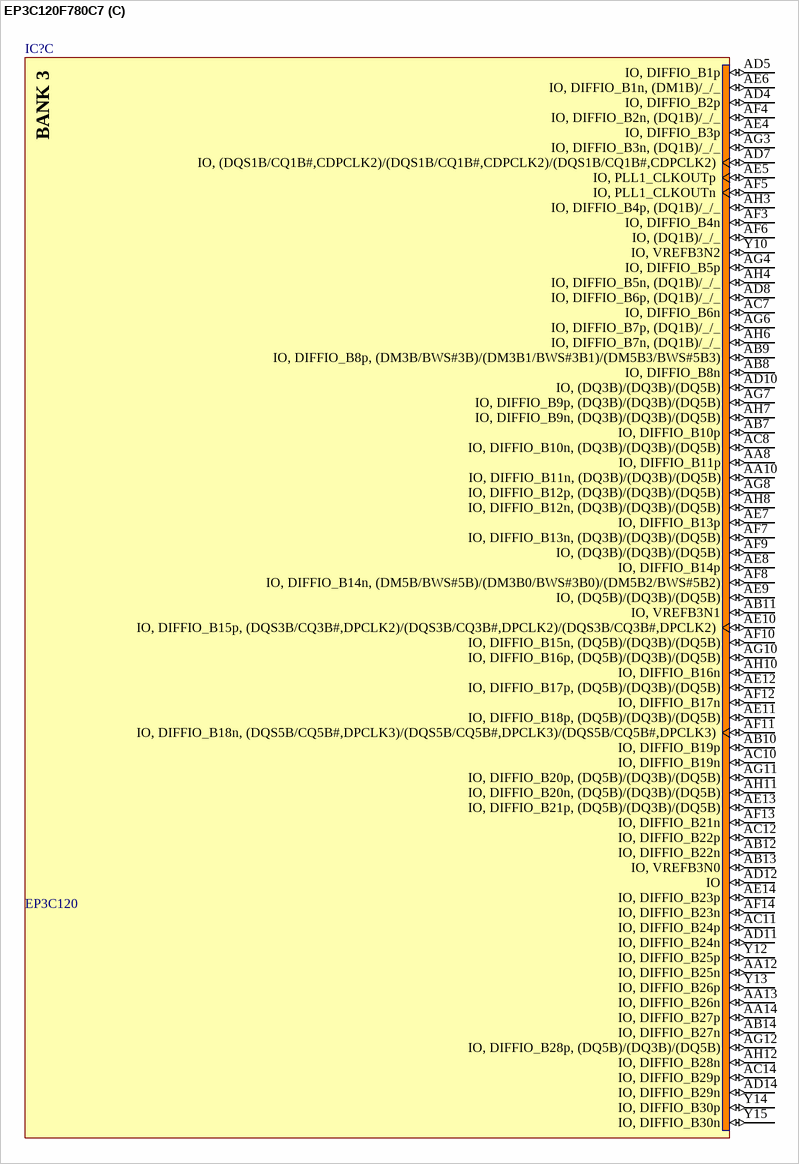
[diagram p8: symbol EP3C120F780C7]

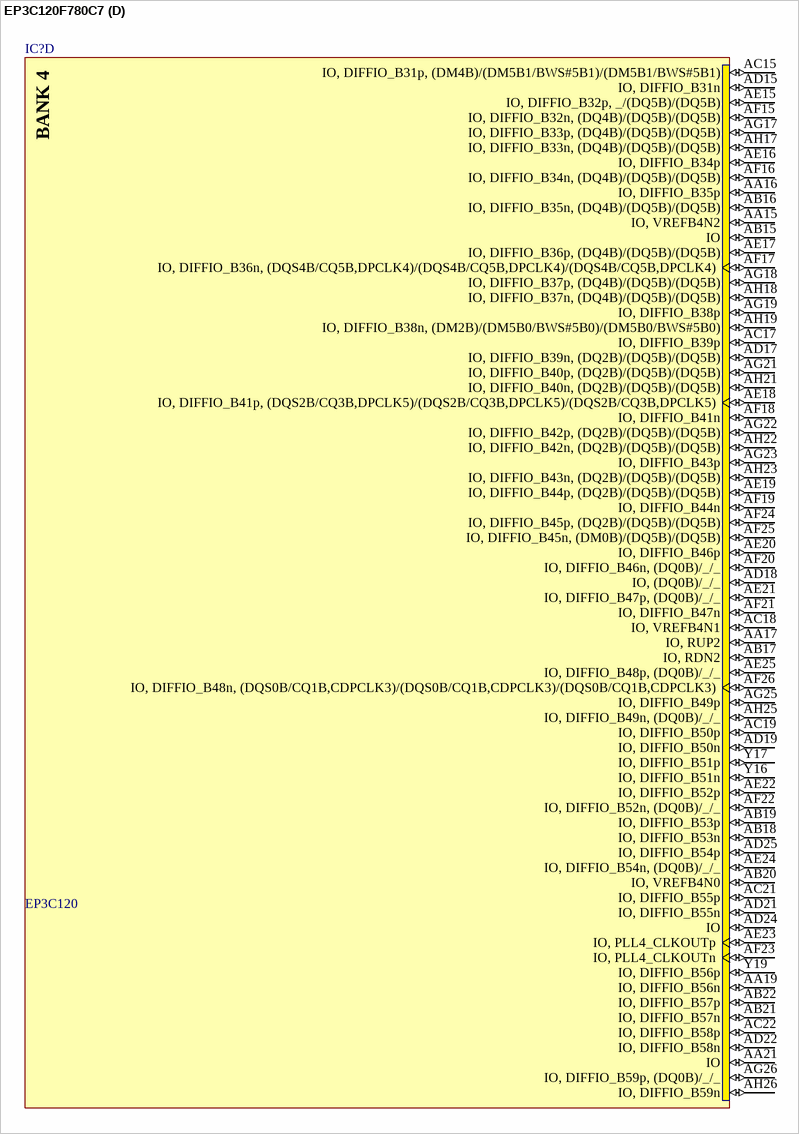
[diagram p9: symbol EP3C120F780C7]

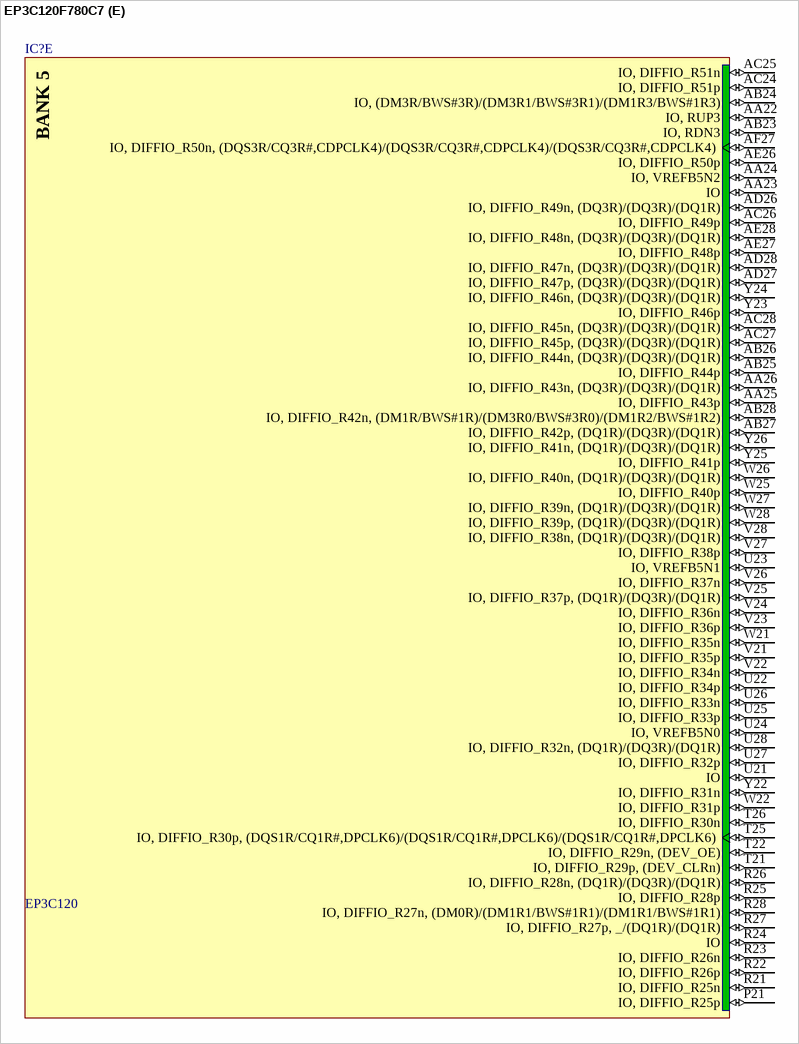
[diagram p10: symbol EP3C120F780C7]

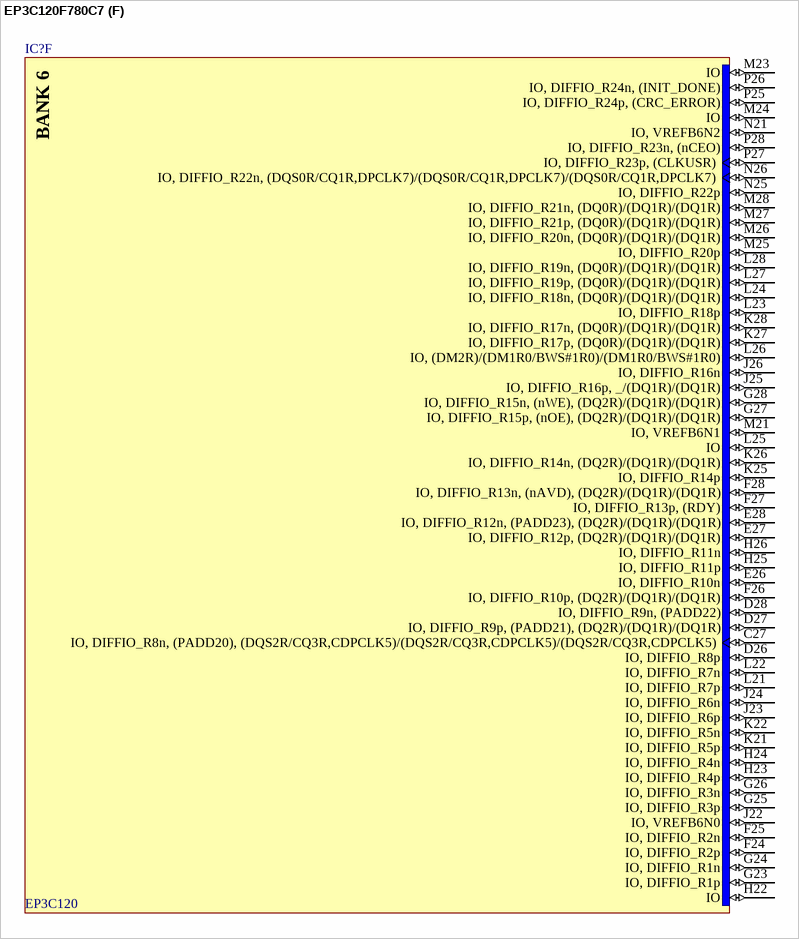
[diagram p11: symbol EP3C120F780C7]

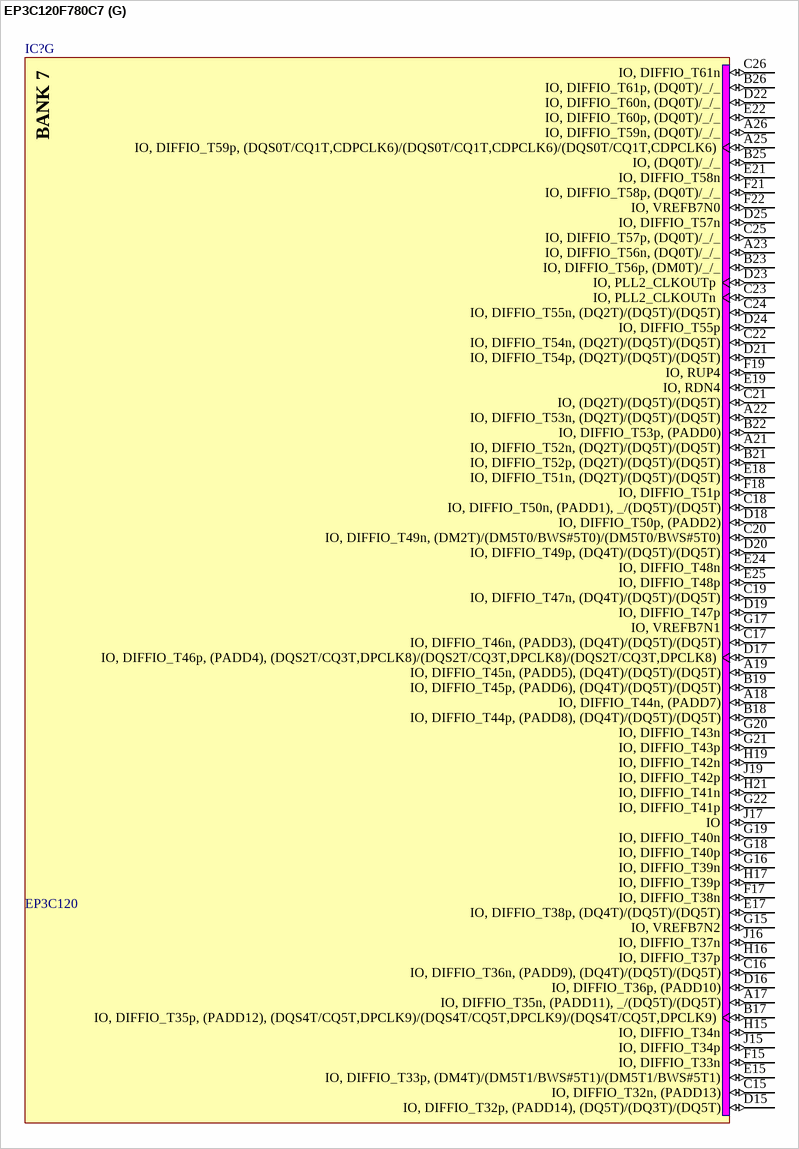
[diagram p12: symbol EP3C120F780C7]

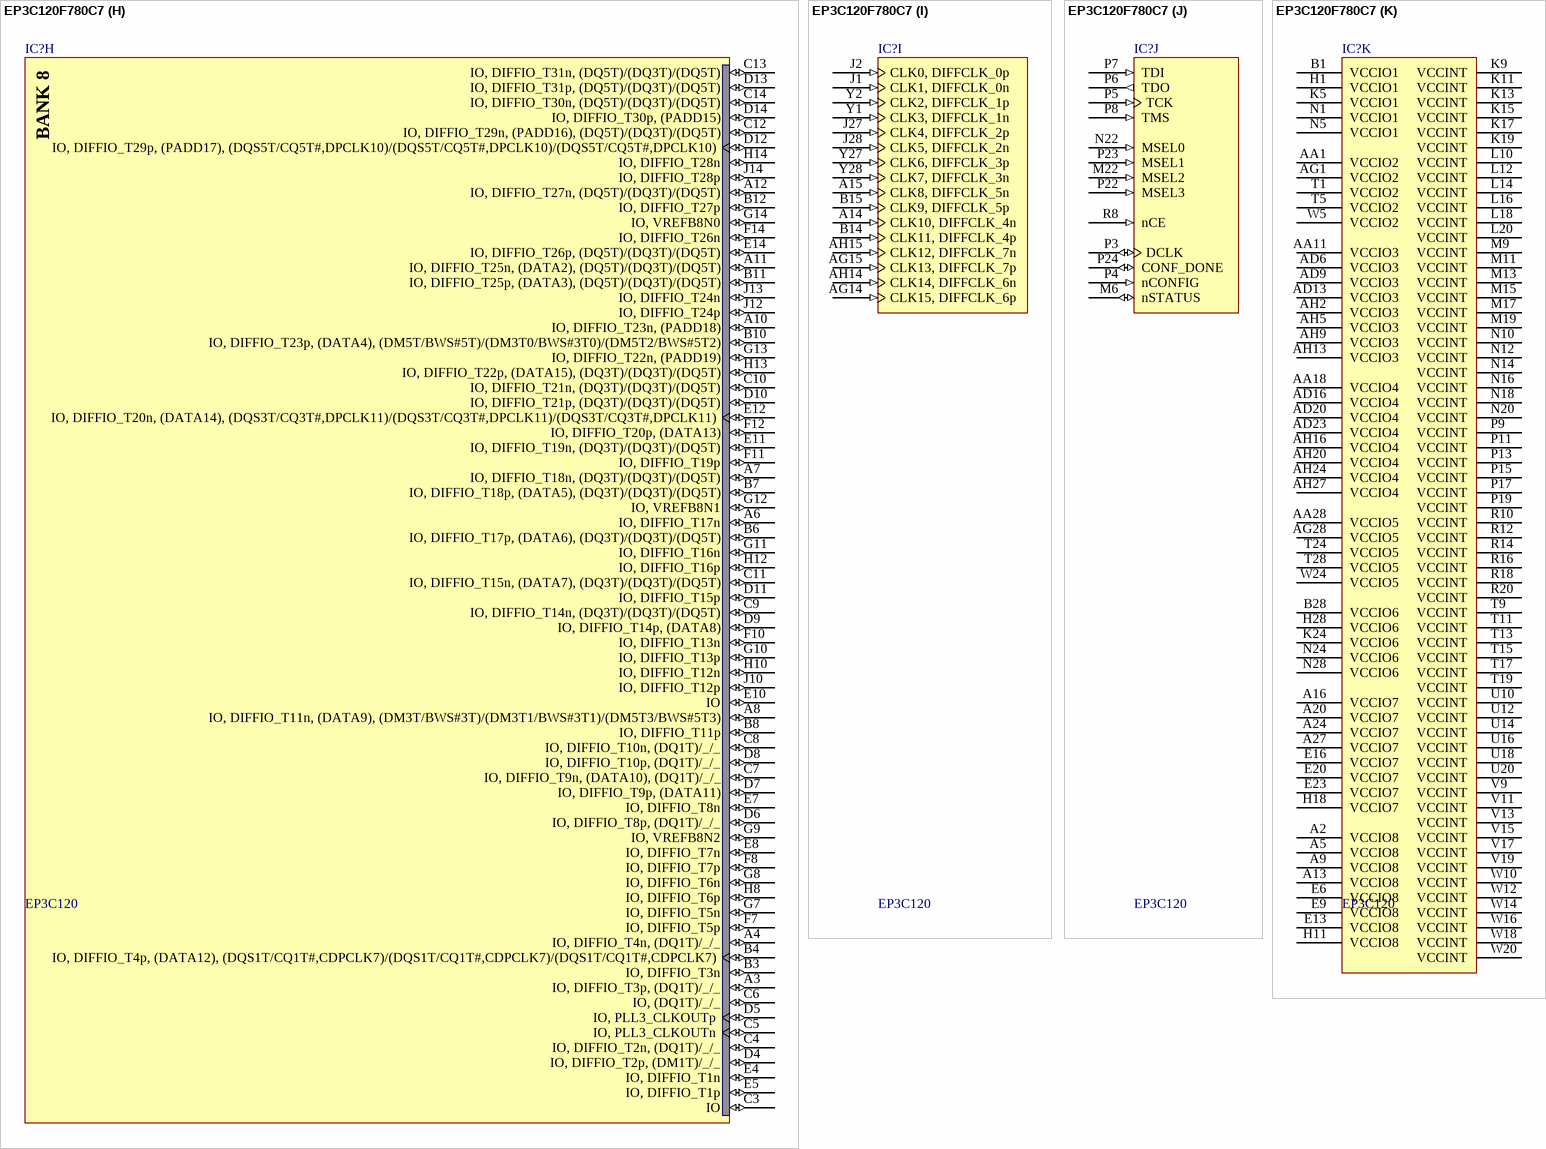
[diagram p13: symbol EP3C120F780C7]

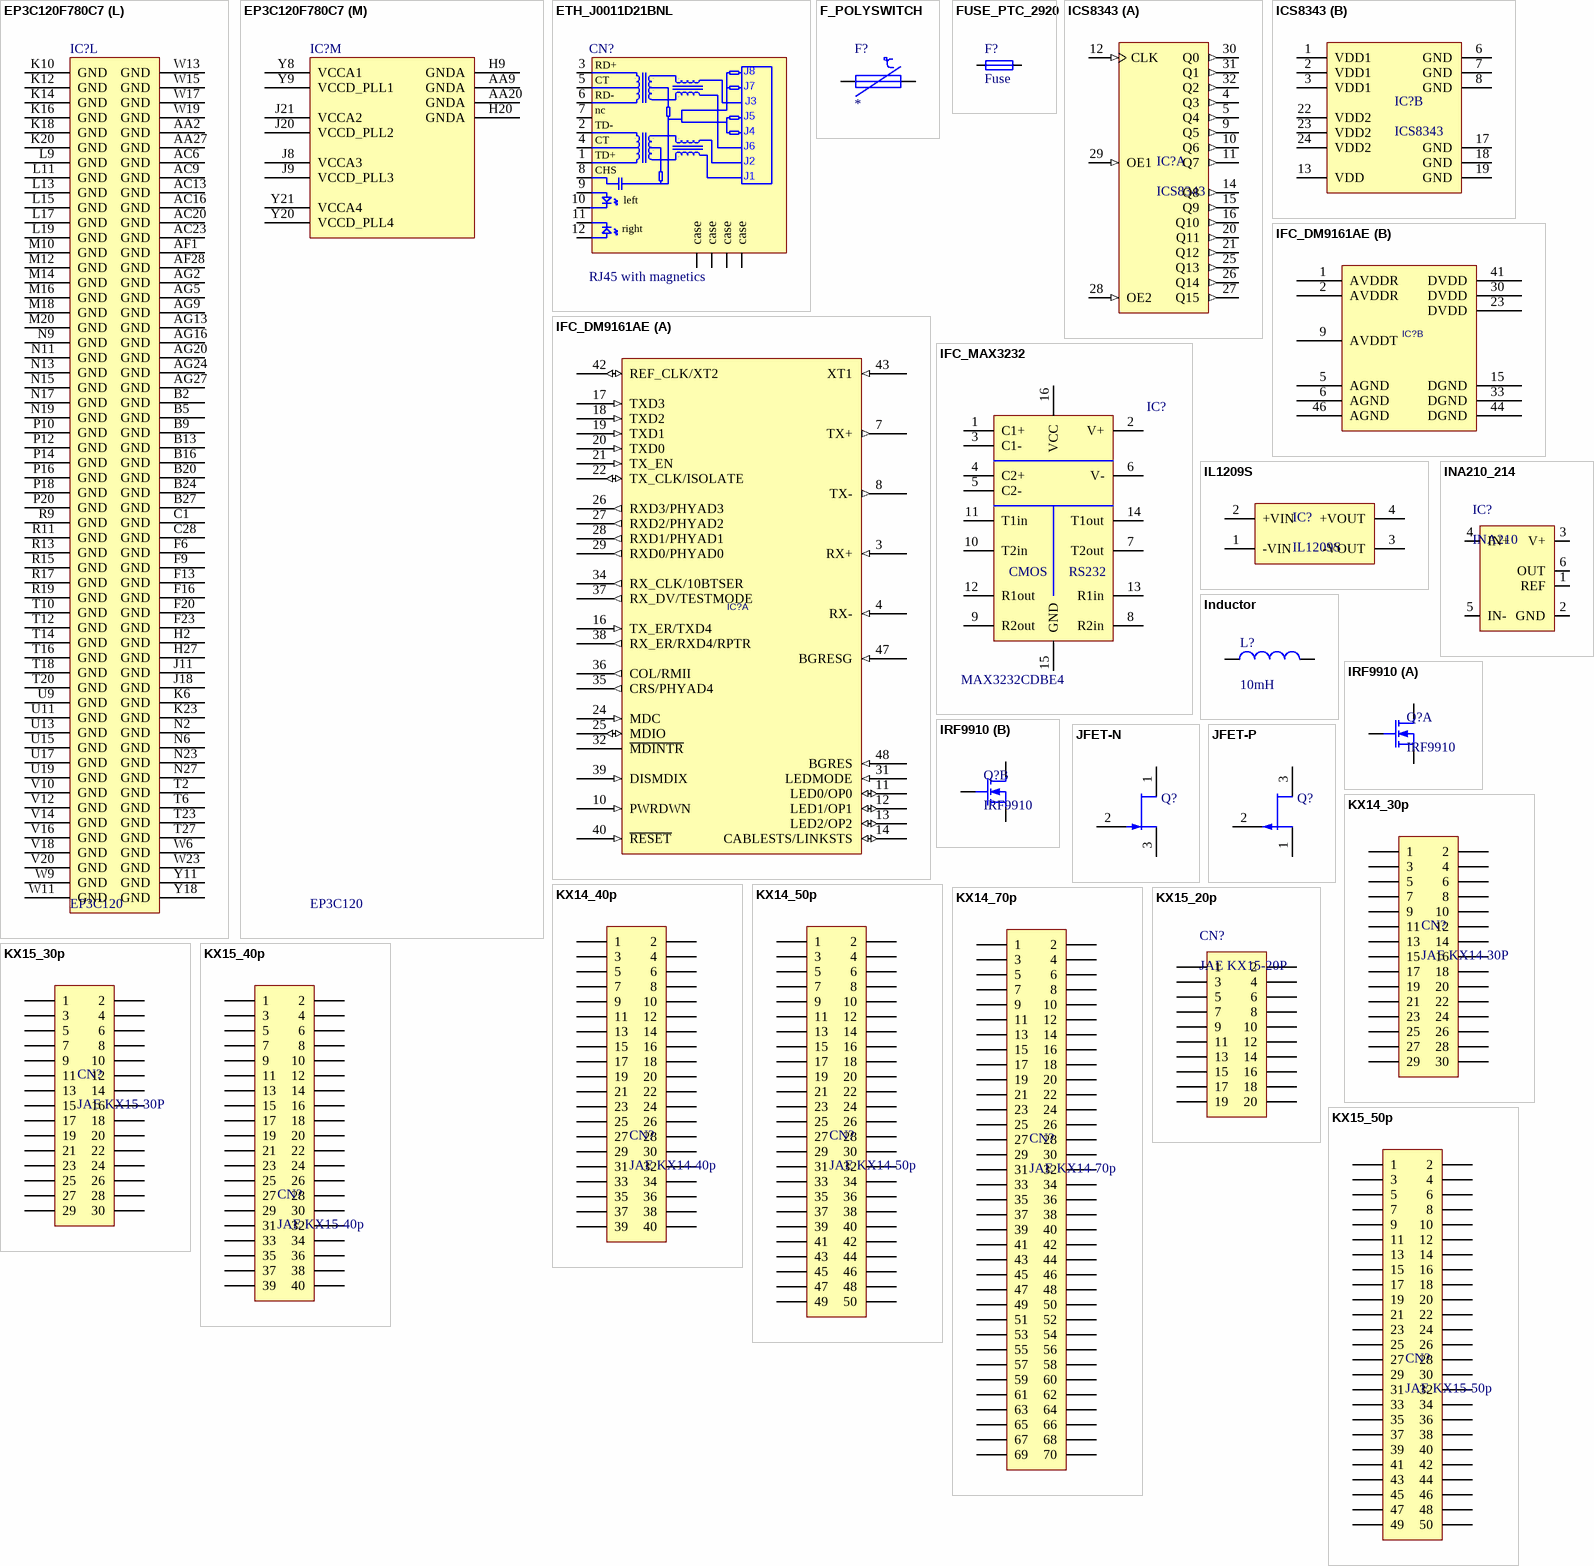
[diagram p14: symbols EP3C120F780C7 to KX15_50p]